# Altium integrated library Altera Cyclone.IntLib: 144 symbols (part 11 of 23)
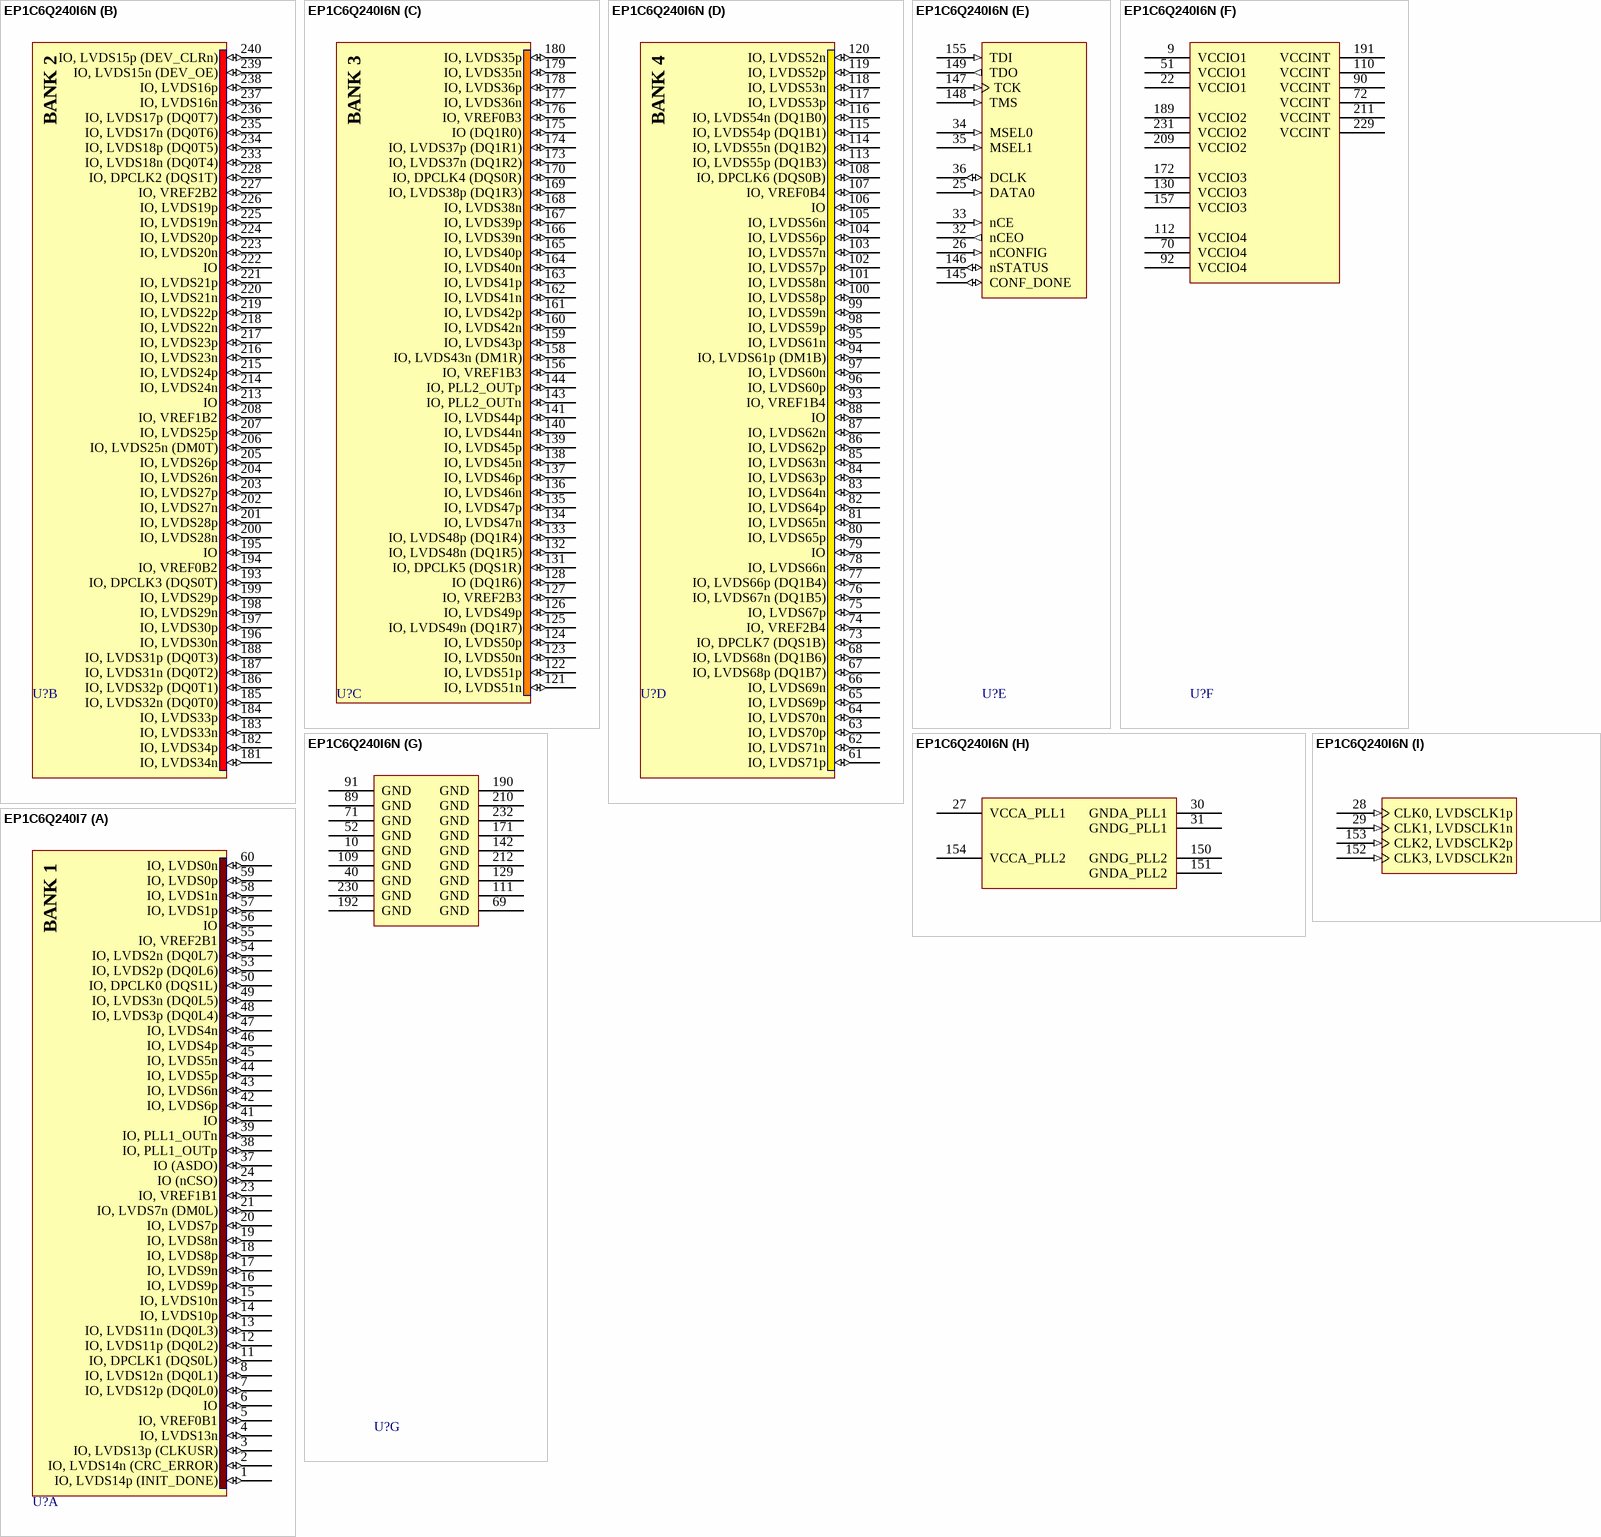
[diagram p163: symbols EP1C6Q240I6N to EP1C6Q240I7]

## EP1C6Q240I6N
designator U?
Cyclone Family, 1.5V FPGA, 185 I/O Pins, 2 x PLLs, Industrial Grade, Speed Grade 6, Pb-Free; Published: 18-Aug-2005; LatestRevisionDate: 13-Apr-2006; LatestRevisionNote: Pin 2 name fix, IPC-7351 Footprint Added.; DatasheetVersion: May-2008; PackageVersion: ver15.1, May-2008; PackageReference: PQFP240; Publisher: Altium Limited; PackageDescription: 240-Pin Plastic Quad Flat Pack (PQFP240) - Wire Bond; Code_JEDEC: MS-029-GA; ComponentLink1Description: Manufacturer Link; ComponentLink1URL: http://www.altera.com/products/devices/cyclone/cyc-index.jsp; ComponentLink2Description: Handbook; ComponentLink2URL: http://www.altera.com/literature/hb/cyc/cyc_c5v1.pdf; ComponentLink3Description: Packaging Specification; ComponentLink3URL: http://www.altera.com/literature/ds/dspkg.pdf
footprint PQFP240_N (Shrink QFP, 240-Leads, Body 32x32mm, Pitch 0.5mm, IPC Medium Density)
footprint PQFP240_L (Shrink QFP, 240-Leads, Body 32x32mm, Pitch 0.5mm, IPC High Density)
footprint PQFP240_M (Shrink QFP, 240-Leads, Body 32x32mm, Pitch 0.5mm, IPC Low Density)
3D model EP1C6-PQFP240 (240-Pin Plastic Quad Flat Pack (PQFP240) - Wire Bond)
signal-integrity model 1c (Cyclone)
part A pins: 1 IO, LVDS14p (INIT_DONE) (io), 2 IO, LVDS14n (CRC_ERROR) (io), 3 IO, LVDS13p (CLKUSR) (io), 4 IO, LVDS13n (io), 5 IO, VREF0B1 (io), 6 IO (io), 7 IO, LVDS12p (DQ0L0) (io), 8 IO, LVDS12n (DQ0L1) (io), 11 IO, DPCLK1 (DQS0L) (io), 12 IO, LVDS11p (DQ0L2) (io), 13 IO, LVDS11n (DQ0L3) (io), 14 IO, LVDS10p (io), 15 IO, LVDS10n (io), 16 IO, LVDS9p (io), 17 IO, LVDS9n (io), 18 IO, LVDS8p (io), 19 IO, LVDS8n (io), 20 IO, LVDS7p (io), 21 IO, LVDS7n (DM0L) (io), 23 IO, VREF1B1 (io), 24 IO (nCSO) (io), 37 IO (ASDO) (io), 38 IO, PLL1_OUTp (io), 39 IO, PLL1_OUTn (io), 41 IO (io), 42 IO, LVDS6p (io), 43 IO, LVDS6n (io), 44 IO, LVDS5p (io), 45 IO, LVDS5n (io), 46 IO, LVDS4p (io), 47 IO, LVDS4n (io), 48 IO, LVDS3p (DQ0L4) (io), 49 IO, LVDS3n (DQ0L5) (io), 50 IO, DPCLK0 (DQS1L) (io), 53 IO, LVDS2p (DQ0L6) (io), 54 IO, LVDS2n (DQ0L7) (io), 55 IO, VREF2B1 (io), 56 IO (io), 57 IO, LVDS1p (io), 58 IO, LVDS1n (io), 59 IO, LVDS0p (io), 60 IO, LVDS0n (io)
part B pins: 181 IO, LVDS34n (io), 182 IO, LVDS34p (io), 183 IO, LVDS33n (io), 184 IO, LVDS33p (io), 185 IO, LVDS32n (DQ0T0) (io), 186 IO, LVDS32p (DQ0T1) (io), 187 IO, LVDS31n (DQ0T2) (io), 188 IO, LVDS31p (DQ0T3) (io), 193 IO, DPCLK3 (DQS0T) (io), 194 IO, VREF0B2 (io), 195 IO (io), 196 IO, LVDS30n (io), 197 IO, LVDS30p (io), 198 IO, LVDS29n (io), 199 IO, LVDS29p (io), 200 IO, LVDS28n (io), 201 IO, LVDS28p (io), 202 IO, LVDS27n (io), 203 IO, LVDS27p (io), 204 IO, LVDS26n (io), 205 IO, LVDS26p (io), 206 IO, LVDS25n (DM0T) (io), 207 IO, LVDS25p (io), 208 IO, VREF1B2 (io), 213 IO (io), 214 IO, LVDS24n (io), 215 IO, LVDS24p (io), 216 IO, LVDS23n (io), 217 IO, LVDS23p (io), 218 IO, LVDS22n (io), 219 IO, LVDS22p (io), 220 IO, LVDS21n (io), 221 IO, LVDS21p (io), 222 IO (io), 223 IO, LVDS20n (io), 224 IO, LVDS20p (io), 225 IO, LVDS19n (io), 226 IO, LVDS19p (io), 227 IO, VREF2B2 (io), 228 IO, DPCLK2 (DQS1T) (io), 233 IO, LVDS18n (DQ0T4) (io), 234 IO, LVDS18p (DQ0T5) (io), 235 IO, LVDS17n (DQ0T6) (io), 236 IO, LVDS17p (DQ0T7) (io), 237 IO, LVDS16n (io), 238 IO, LVDS16p (io), 239 IO, LVDS15n (DEV_OE) (io), 240 IO, LVDS15p (DEV_CLRn) (io)
part C pins: 121 IO, LVDS51n (io), 122 IO, LVDS51p (io), 123 IO, LVDS50n (io), 124 IO, LVDS50p (io), 125 IO, LVDS49n (DQ1R7) (io), 126 IO, LVDS49p (io), 127 IO, VREF2B3 (io), 128 IO (DQ1R6) (io), 131 IO, DPCLK5 (DQS1R) (io), 132 IO, LVDS48n (DQ1R5) (io), 133 IO, LVDS48p (DQ1R4) (io), 134 IO, LVDS47n (io), 135 IO, LVDS47p (io), 136 IO, LVDS46n (io), 137 IO, LVDS46p (io), 138 IO, LVDS45n (io), 139 IO, LVDS45p (io), 140 IO, LVDS44n (io), 141 IO, LVDS44p (io), 143 IO, PLL2_OUTn (io), 144 IO, PLL2_OUTp (io), 156 IO, VREF1B3 (io), 158 IO, LVDS43n (DM1R) (io), 159 IO, LVDS43p (io), 160 IO, LVDS42n (io), 161 IO, LVDS42p (io), 162 IO, LVDS41n (io), 163 IO, LVDS41p (io), 164 IO, LVDS40n (io), 165 IO, LVDS40p (io), 166 IO, LVDS39n (io), 167 IO, LVDS39p (io), 168 IO, LVDS38n (io), 169 IO, LVDS38p (DQ1R3) (io), 170 IO, DPCLK4 (DQS0R) (io), 173 IO, LVDS37n (DQ1R2) (io), 174 IO, LVDS37p (DQ1R1) (io), 175 IO (DQ1R0) (io), 176 IO, VREF0B3 (io), 177 IO, LVDS36n (io), 178 IO, LVDS36p (io), 179 IO, LVDS35n (io), 180 IO, LVDS35p (io)
part D pins: 61 IO, LVDS71p (io), 62 IO, LVDS71n (io), 63 IO, LVDS70p (io), 64 IO, LVDS70n (io), 65 IO, LVDS69p (io), 66 IO, LVDS69n (io), 67 IO, LVDS68p (DQ1B7) (io), 68 IO, LVDS68n (DQ1B6) (io), 73 IO, DPCLK7 (DQS1B) (io), 74 IO, VREF2B4 (io), 75 IO, LVDS67p (io), 76 IO, LVDS67n (DQ1B5) (io), 77 IO, LVDS66p (DQ1B4) (io), 78 IO, LVDS66n (io), 79 IO (io), 80 IO, LVDS65p (io), 81 IO, LVDS65n (io), 82 IO, LVDS64p (io), 83 IO, LVDS64n (io), 84 IO, LVDS63p (io), 85 IO, LVDS63n (io), 86 IO, LVDS62p (io), 87 IO, LVDS62n (io), 88 IO (io), 93 IO, VREF1B4 (io), 94 IO, LVDS61p (DM1B) (io), 95 IO, LVDS61n (io), 96 IO, LVDS60p (io), 97 IO, LVDS60n (io), 98 IO, LVDS59p (io), 99 IO, LVDS59n (io), 100 IO, LVDS58p (io), 101 IO, LVDS58n (io), 102 IO, LVDS57p (io), 103 IO, LVDS57n (io), 104 IO, LVDS56p (io), 105 IO, LVDS56n (io), 106 IO (io), 107 IO, VREF0B4 (io), 108 IO, DPCLK6 (DQS0B) (io), 113 IO, LVDS55p (DQ1B3) (io), 114 IO, LVDS55n (DQ1B2) (io), 115 IO, LVDS54p (DQ1B1) (io), 116 IO, LVDS54n (DQ1B0) (io), 117 IO, LVDS53p (io), 118 IO, LVDS53n (io), 119 IO, LVDS52p (io), 120 IO, LVDS52n (io)
part E pins: 25 DATA0 (in), 26 nCONFIG (in), 32 nCEO (out), 33 nCE (in), 34 MSEL0 (in), 35 MSEL1 (in), 36 DCLK (io), 145 CONF_DONE (io), 146 nSTATUS (io), 147 TCK (in), 148 TMS (in), 149 TDO (out), 155 TDI (in)
part F pins: 9 VCCIO1 (power), 22 VCCIO1 (power), 51 VCCIO1 (power), 70 VCCIO4 (power), 72 VCCINT (power), 90 VCCINT (power), 92 VCCIO4 (power), 110 VCCINT (power), 112 VCCIO4 (power), 130 VCCIO3 (power), 157 VCCIO3 (power), 172 VCCIO3 (power), 189 VCCIO2 (power), 191 VCCINT (power), 209 VCCIO2 (power), 211 VCCINT (power), 229 VCCINT (power), 231 VCCIO2 (power)
part G pins: 10 GND (power), 40 GND (power), 52 GND (power), 69 GND (power), 71 GND (power), 89 GND (power), 91 GND (power), 109 GND (power), 111 GND (power), 129 GND (power), 142 GND (power), 171 GND (power), 190 GND (power), 192 GND (power), 210 GND (power), 212 GND (power), 230 GND (power), 232 GND (power)
part H pins: 27 VCCA_PLL1 (power), 30 GNDA_PLL1 (power), 31 GNDG_PLL1 (power), 150 GNDG_PLL2 (power), 151 GNDA_PLL2 (power), 154 VCCA_PLL2 (power)
part I pins: 28 CLK0, LVDSCLK1p (in), 29 CLK1, LVDSCLK1n (in), 152 CLK3, LVDSCLK2n (in), 153 CLK2, LVDSCLK2p (in)
part A text: BANK 1
part B text: BANK 2
part C text: BANK 3
part D text: BANK 4

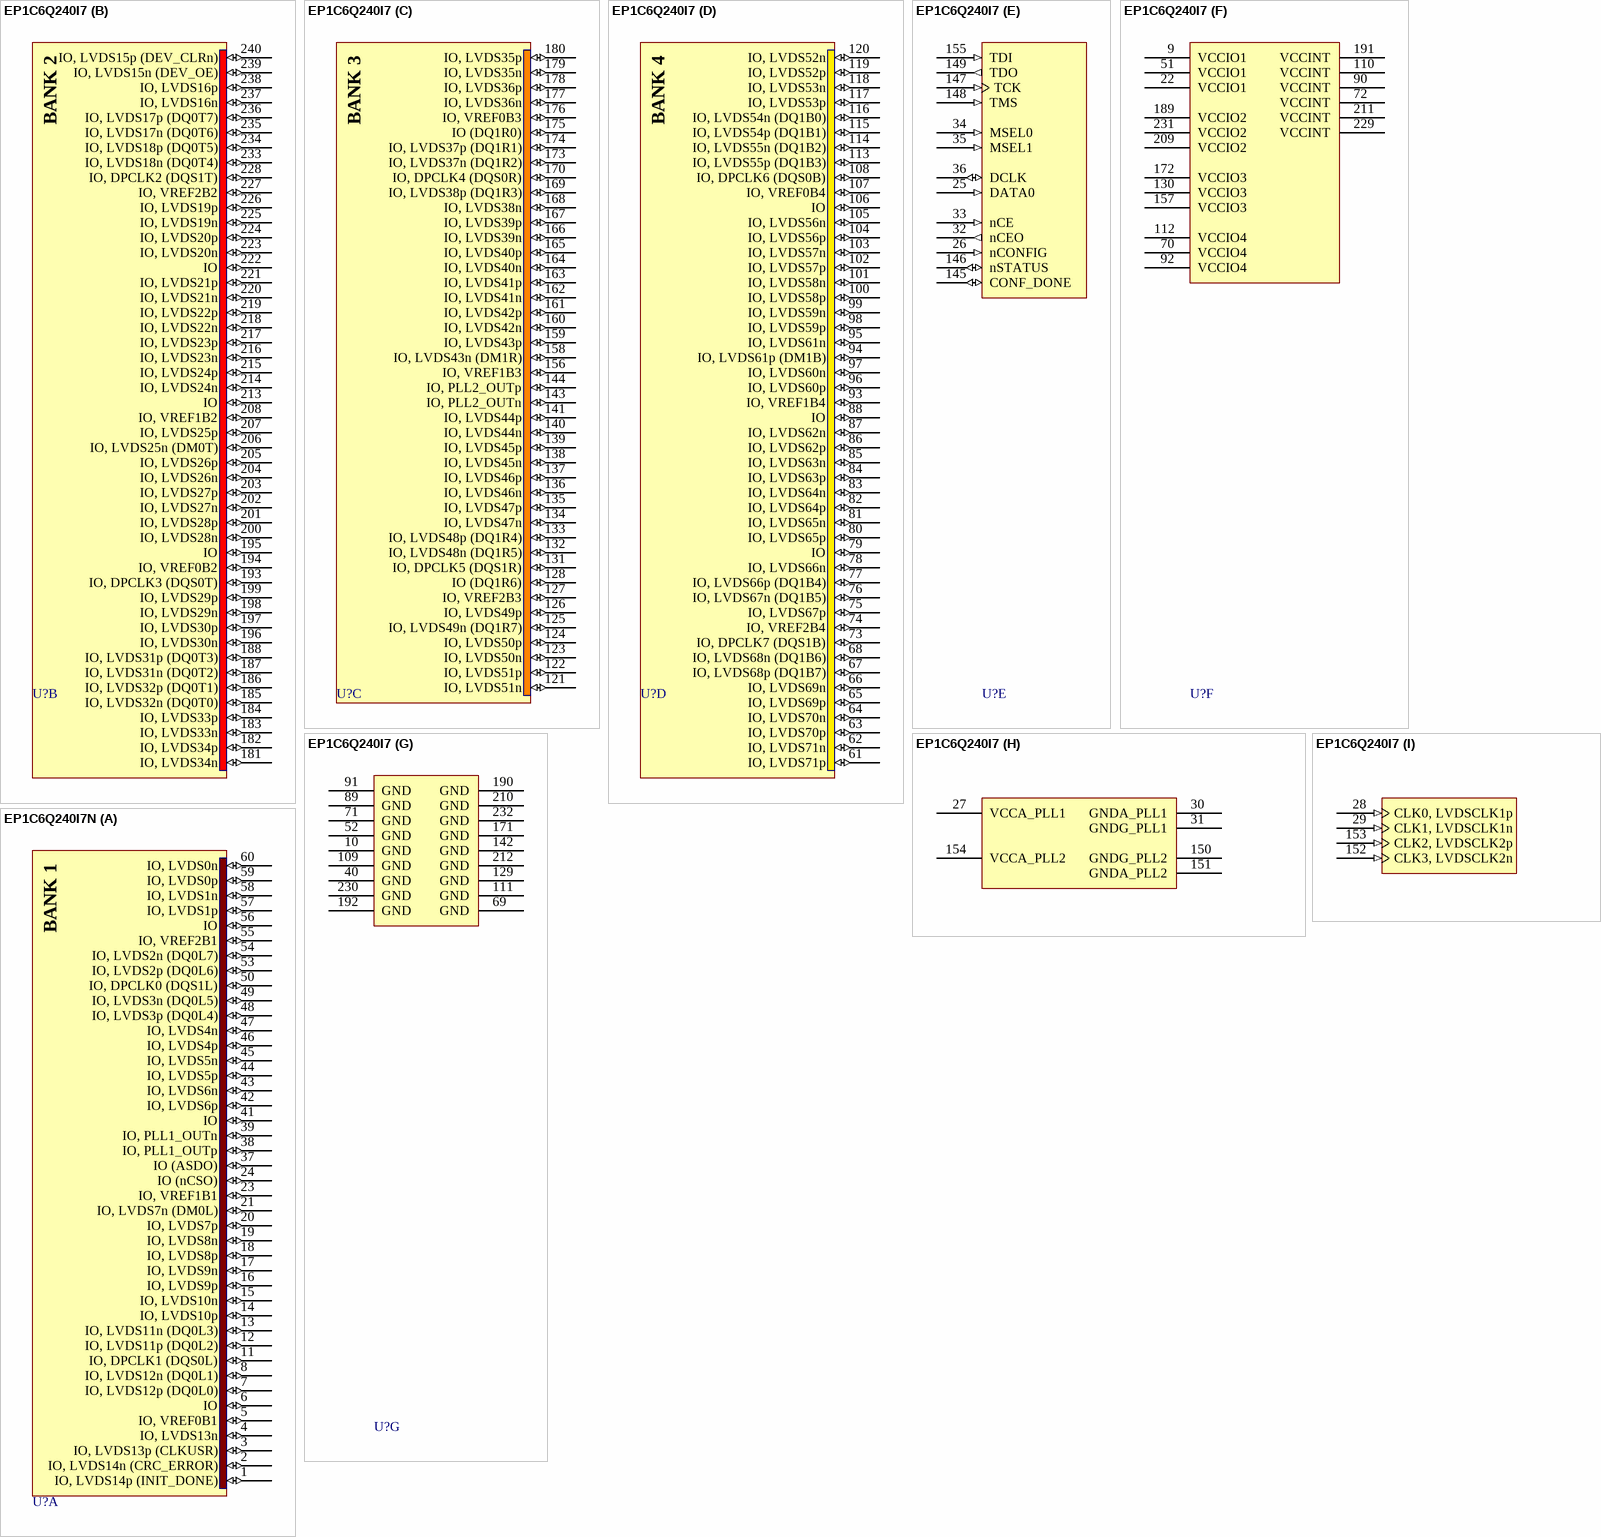
[diagram p68: symbols EP1C6Q240I7 to EP1C6Q240I7N]

## EP1C6Q240I7
designator U?
Cyclone Family, 1.5V FPGA, 185 I/O Pins, 2 x PLLs, Industrial Grade, Speed Grade 7; Published: 17-Dec-2003; LatestRevisionDate: 13-Apr-2006; LatestRevisionNote: Pin 2 name fix, IPC-7351 Footprint Added.; DatasheetVersion: May-2008; PackageVersion: ver15.1, May-2008; PackageReference: PQFP240; Publisher: Altium Limited; PackageDescription: 240-Pin Plastic Quad Flat Pack (PQFP240) - Wire Bond; Code_JEDEC: MS-029-GA; ComponentLink1Description: Manufacturer Link; ComponentLink1URL: http://www.altera.com/products/devices/cyclone/cyc-index.jsp; ComponentLink2Description: Handbook; ComponentLink2URL: http://www.altera.com/literature/hb/cyc/cyc_c5v1.pdf; ComponentLink3Description: Packaging Specification; ComponentLink3URL: http://www.altera.com/literature/ds/dspkg.pdf
footprint PQFP240_N (Shrink QFP, 240-Leads, Body 32x32mm, Pitch 0.5mm, IPC Medium Density)
footprint PQFP240_L (Shrink QFP, 240-Leads, Body 32x32mm, Pitch 0.5mm, IPC High Density)
footprint PQFP240_M (Shrink QFP, 240-Leads, Body 32x32mm, Pitch 0.5mm, IPC Low Density)
3D model EP1C6-PQFP240 (240-Pin Plastic Quad Flat Pack (PQFP240) - Wire Bond)
signal-integrity model 1c (Cyclone)
part A pins: 1 IO, LVDS14p (INIT_DONE) (io), 2 IO, LVDS14n (CRC_ERROR) (io), 3 IO, LVDS13p (CLKUSR) (io), 4 IO, LVDS13n (io), 5 IO, VREF0B1 (io), 6 IO (io), 7 IO, LVDS12p (DQ0L0) (io), 8 IO, LVDS12n (DQ0L1) (io), 11 IO, DPCLK1 (DQS0L) (io), 12 IO, LVDS11p (DQ0L2) (io), 13 IO, LVDS11n (DQ0L3) (io), 14 IO, LVDS10p (io), 15 IO, LVDS10n (io), 16 IO, LVDS9p (io), 17 IO, LVDS9n (io), 18 IO, LVDS8p (io), 19 IO, LVDS8n (io), 20 IO, LVDS7p (io), 21 IO, LVDS7n (DM0L) (io), 23 IO, VREF1B1 (io), 24 IO (nCSO) (io), 37 IO (ASDO) (io), 38 IO, PLL1_OUTp (io), 39 IO, PLL1_OUTn (io), 41 IO (io), 42 IO, LVDS6p (io), 43 IO, LVDS6n (io), 44 IO, LVDS5p (io), 45 IO, LVDS5n (io), 46 IO, LVDS4p (io), 47 IO, LVDS4n (io), 48 IO, LVDS3p (DQ0L4) (io), 49 IO, LVDS3n (DQ0L5) (io), 50 IO, DPCLK0 (DQS1L) (io), 53 IO, LVDS2p (DQ0L6) (io), 54 IO, LVDS2n (DQ0L7) (io), 55 IO, VREF2B1 (io), 56 IO (io), 57 IO, LVDS1p (io), 58 IO, LVDS1n (io), 59 IO, LVDS0p (io), 60 IO, LVDS0n (io)
part B pins: 181 IO, LVDS34n (io), 182 IO, LVDS34p (io), 183 IO, LVDS33n (io), 184 IO, LVDS33p (io), 185 IO, LVDS32n (DQ0T0) (io), 186 IO, LVDS32p (DQ0T1) (io), 187 IO, LVDS31n (DQ0T2) (io), 188 IO, LVDS31p (DQ0T3) (io), 193 IO, DPCLK3 (DQS0T) (io), 194 IO, VREF0B2 (io), 195 IO (io), 196 IO, LVDS30n (io), 197 IO, LVDS30p (io), 198 IO, LVDS29n (io), 199 IO, LVDS29p (io), 200 IO, LVDS28n (io), 201 IO, LVDS28p (io), 202 IO, LVDS27n (io), 203 IO, LVDS27p (io), 204 IO, LVDS26n (io), 205 IO, LVDS26p (io), 206 IO, LVDS25n (DM0T) (io), 207 IO, LVDS25p (io), 208 IO, VREF1B2 (io), 213 IO (io), 214 IO, LVDS24n (io), 215 IO, LVDS24p (io), 216 IO, LVDS23n (io), 217 IO, LVDS23p (io), 218 IO, LVDS22n (io), 219 IO, LVDS22p (io), 220 IO, LVDS21n (io), 221 IO, LVDS21p (io), 222 IO (io), 223 IO, LVDS20n (io), 224 IO, LVDS20p (io), 225 IO, LVDS19n (io), 226 IO, LVDS19p (io), 227 IO, VREF2B2 (io), 228 IO, DPCLK2 (DQS1T) (io), 233 IO, LVDS18n (DQ0T4) (io), 234 IO, LVDS18p (DQ0T5) (io), 235 IO, LVDS17n (DQ0T6) (io), 236 IO, LVDS17p (DQ0T7) (io), 237 IO, LVDS16n (io), 238 IO, LVDS16p (io), 239 IO, LVDS15n (DEV_OE) (io), 240 IO, LVDS15p (DEV_CLRn) (io)
part C pins: 121 IO, LVDS51n (io), 122 IO, LVDS51p (io), 123 IO, LVDS50n (io), 124 IO, LVDS50p (io), 125 IO, LVDS49n (DQ1R7) (io), 126 IO, LVDS49p (io), 127 IO, VREF2B3 (io), 128 IO (DQ1R6) (io), 131 IO, DPCLK5 (DQS1R) (io), 132 IO, LVDS48n (DQ1R5) (io), 133 IO, LVDS48p (DQ1R4) (io), 134 IO, LVDS47n (io), 135 IO, LVDS47p (io), 136 IO, LVDS46n (io), 137 IO, LVDS46p (io), 138 IO, LVDS45n (io), 139 IO, LVDS45p (io), 140 IO, LVDS44n (io), 141 IO, LVDS44p (io), 143 IO, PLL2_OUTn (io), 144 IO, PLL2_OUTp (io), 156 IO, VREF1B3 (io), 158 IO, LVDS43n (DM1R) (io), 159 IO, LVDS43p (io), 160 IO, LVDS42n (io), 161 IO, LVDS42p (io), 162 IO, LVDS41n (io), 163 IO, LVDS41p (io), 164 IO, LVDS40n (io), 165 IO, LVDS40p (io), 166 IO, LVDS39n (io), 167 IO, LVDS39p (io), 168 IO, LVDS38n (io), 169 IO, LVDS38p (DQ1R3) (io), 170 IO, DPCLK4 (DQS0R) (io), 173 IO, LVDS37n (DQ1R2) (io), 174 IO, LVDS37p (DQ1R1) (io), 175 IO (DQ1R0) (io), 176 IO, VREF0B3 (io), 177 IO, LVDS36n (io), 178 IO, LVDS36p (io), 179 IO, LVDS35n (io), 180 IO, LVDS35p (io)
part D pins: 61 IO, LVDS71p (io), 62 IO, LVDS71n (io), 63 IO, LVDS70p (io), 64 IO, LVDS70n (io), 65 IO, LVDS69p (io), 66 IO, LVDS69n (io), 67 IO, LVDS68p (DQ1B7) (io), 68 IO, LVDS68n (DQ1B6) (io), 73 IO, DPCLK7 (DQS1B) (io), 74 IO, VREF2B4 (io), 75 IO, LVDS67p (io), 76 IO, LVDS67n (DQ1B5) (io), 77 IO, LVDS66p (DQ1B4) (io), 78 IO, LVDS66n (io), 79 IO (io), 80 IO, LVDS65p (io), 81 IO, LVDS65n (io), 82 IO, LVDS64p (io), 83 IO, LVDS64n (io), 84 IO, LVDS63p (io), 85 IO, LVDS63n (io), 86 IO, LVDS62p (io), 87 IO, LVDS62n (io), 88 IO (io), 93 IO, VREF1B4 (io), 94 IO, LVDS61p (DM1B) (io), 95 IO, LVDS61n (io), 96 IO, LVDS60p (io), 97 IO, LVDS60n (io), 98 IO, LVDS59p (io), 99 IO, LVDS59n (io), 100 IO, LVDS58p (io), 101 IO, LVDS58n (io), 102 IO, LVDS57p (io), 103 IO, LVDS57n (io), 104 IO, LVDS56p (io), 105 IO, LVDS56n (io), 106 IO (io), 107 IO, VREF0B4 (io), 108 IO, DPCLK6 (DQS0B) (io), 113 IO, LVDS55p (DQ1B3) (io), 114 IO, LVDS55n (DQ1B2) (io), 115 IO, LVDS54p (DQ1B1) (io), 116 IO, LVDS54n (DQ1B0) (io), 117 IO, LVDS53p (io), 118 IO, LVDS53n (io), 119 IO, LVDS52p (io), 120 IO, LVDS52n (io)
part E pins: 25 DATA0 (in), 26 nCONFIG (in), 32 nCEO (out), 33 nCE (in), 34 MSEL0 (in), 35 MSEL1 (in), 36 DCLK (io), 145 CONF_DONE (io), 146 nSTATUS (io), 147 TCK (in), 148 TMS (in), 149 TDO (out), 155 TDI (in)
part F pins: 9 VCCIO1 (power), 22 VCCIO1 (power), 51 VCCIO1 (power), 70 VCCIO4 (power), 72 VCCINT (power), 90 VCCINT (power), 92 VCCIO4 (power), 110 VCCINT (power), 112 VCCIO4 (power), 130 VCCIO3 (power), 157 VCCIO3 (power), 172 VCCIO3 (power), 189 VCCIO2 (power), 191 VCCINT (power), 209 VCCIO2 (power), 211 VCCINT (power), 229 VCCINT (power), 231 VCCIO2 (power)
part G pins: 10 GND (power), 40 GND (power), 52 GND (power), 69 GND (power), 71 GND (power), 89 GND (power), 91 GND (power), 109 GND (power), 111 GND (power), 129 GND (power), 142 GND (power), 171 GND (power), 190 GND (power), 192 GND (power), 210 GND (power), 212 GND (power), 230 GND (power), 232 GND (power)
part H pins: 27 VCCA_PLL1 (power), 30 GNDA_PLL1 (power), 31 GNDG_PLL1 (power), 150 GNDG_PLL2 (power), 151 GNDA_PLL2 (power), 154 VCCA_PLL2 (power)
part I pins: 28 CLK0, LVDSCLK1p (in), 29 CLK1, LVDSCLK1n (in), 152 CLK3, LVDSCLK2n (in), 153 CLK2, LVDSCLK2p (in)
part A text: BANK 1
part B text: BANK 2
part C text: BANK 3
part D text: BANK 4

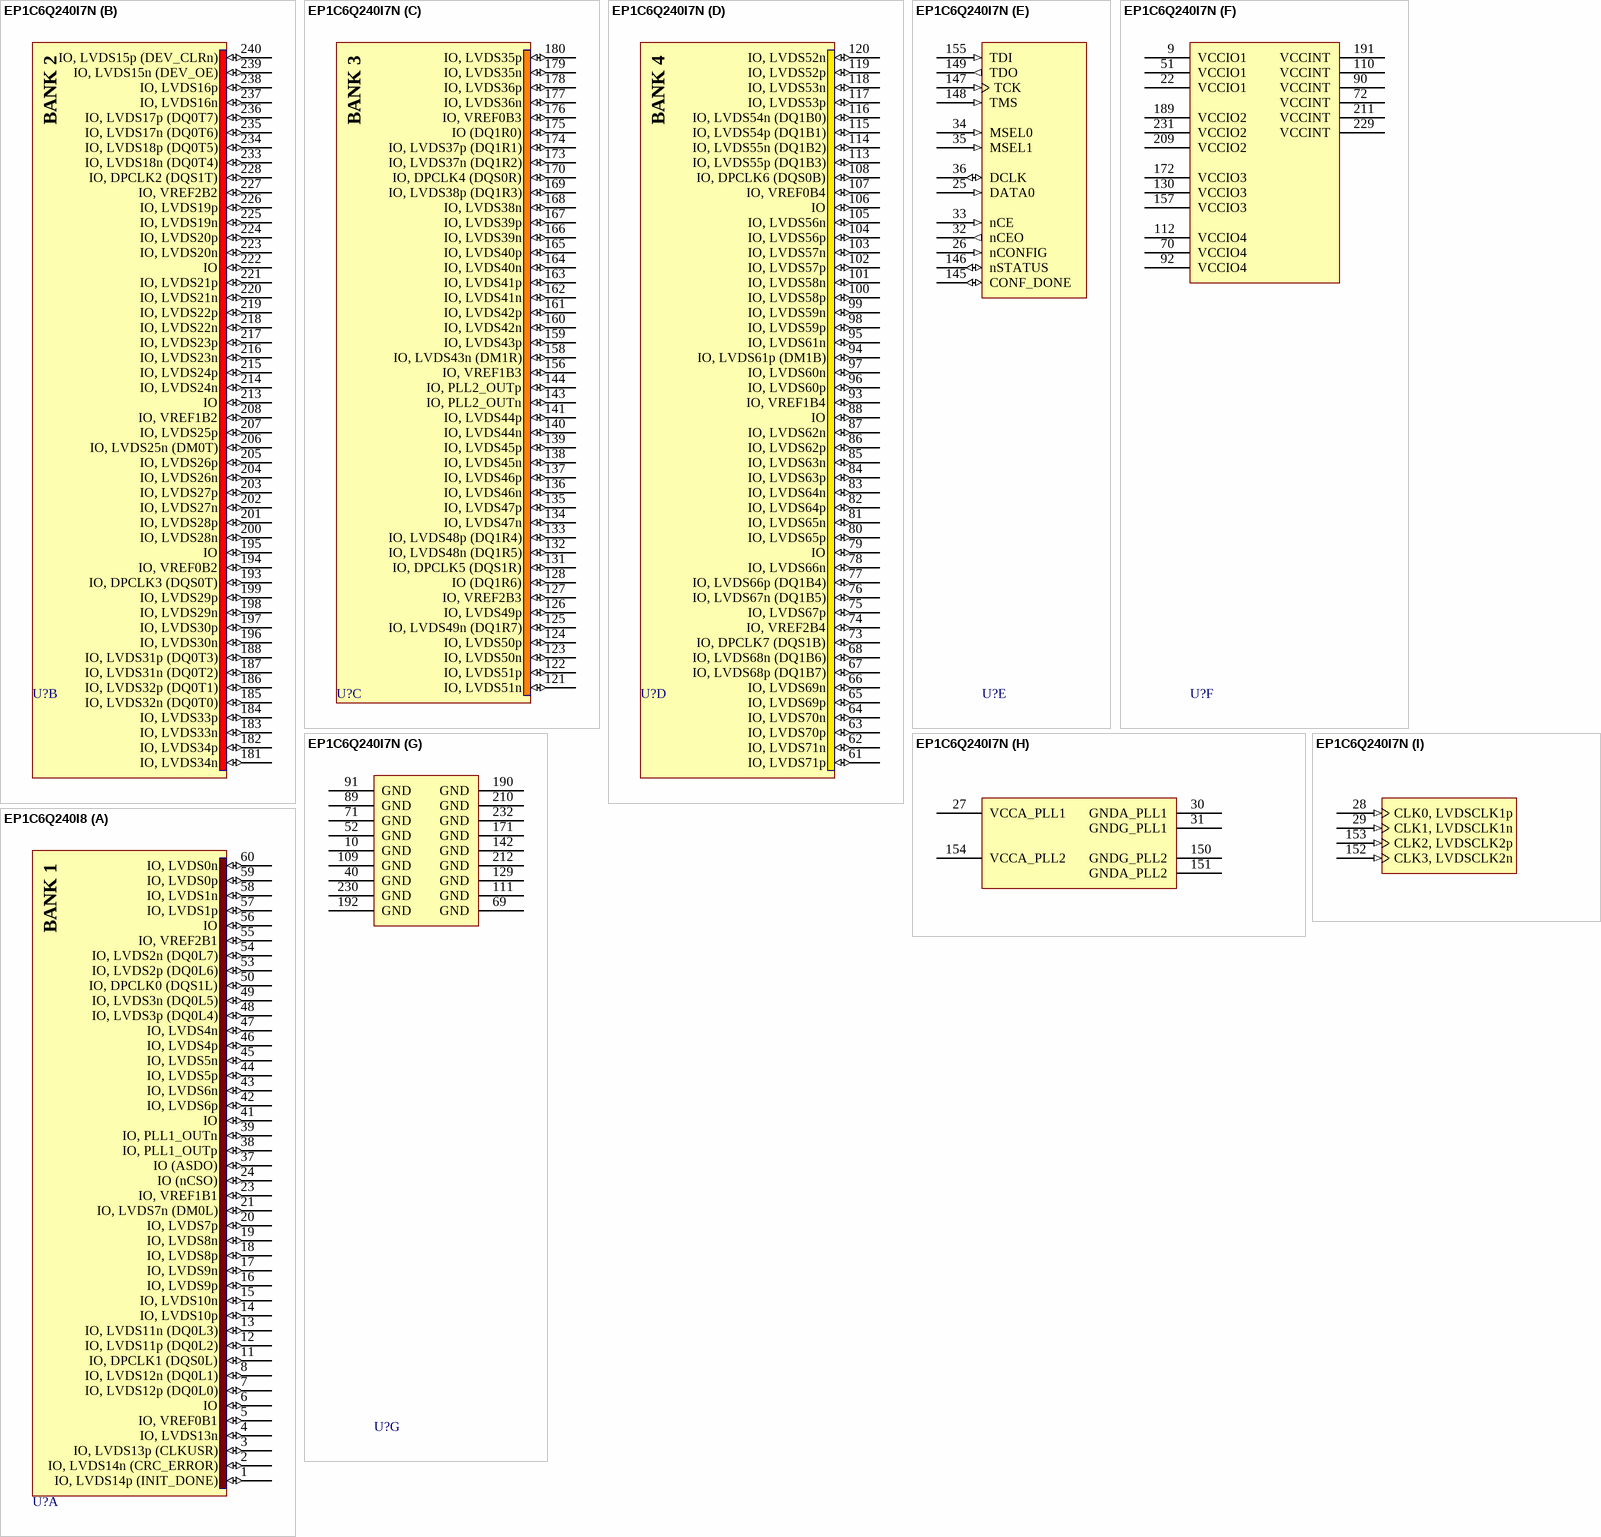
[diagram p69: symbols EP1C6Q240I7N to EP1C6Q240I8]

## EP1C6Q240I7N
designator U?
Cyclone Family, 1.5V FPGA, 185 I/O Pins, 2 x PLLs, Industrial Grade, Speed Grade 7, Pb-Free; Published: 4-Mar-2005; LatestRevisionDate: 13-Apr-2006; LatestRevisionNote: Pin 2 name fix, IPC-7351 Footprint Added.; DatasheetVersion: May-2008; PackageVersion: ver15.1, May-2008; PackageReference: PQFP240; Publisher: Altium Limited; PackageDescription: 240-Pin Plastic Quad Flat Pack (PQFP240) - Wire Bond; Code_JEDEC: MS-029-GA; ComponentLink1Description: Manufacturer Link; ComponentLink1URL: http://www.altera.com/products/devices/cyclone/cyc-index.jsp; ComponentLink2Description: Handbook; ComponentLink2URL: http://www.altera.com/literature/hb/cyc/cyc_c5v1.pdf; ComponentLink3Description: Packaging Specification; ComponentLink3URL: http://www.altera.com/literature/ds/dspkg.pdf
footprint PQFP240_N (Shrink QFP, 240-Leads, Body 32x32mm, Pitch 0.5mm, IPC Medium Density)
footprint PQFP240_L (Shrink QFP, 240-Leads, Body 32x32mm, Pitch 0.5mm, IPC High Density)
footprint PQFP240_M (Shrink QFP, 240-Leads, Body 32x32mm, Pitch 0.5mm, IPC Low Density)
3D model EP1C6-PQFP240 (240-Pin Plastic Quad Flat Pack (PQFP240) - Wire Bond)
signal-integrity model 1c (Cyclone)
part A pins: 1 IO, LVDS14p (INIT_DONE) (io), 2 IO, LVDS14n (CRC_ERROR) (io), 3 IO, LVDS13p (CLKUSR) (io), 4 IO, LVDS13n (io), 5 IO, VREF0B1 (io), 6 IO (io), 7 IO, LVDS12p (DQ0L0) (io), 8 IO, LVDS12n (DQ0L1) (io), 11 IO, DPCLK1 (DQS0L) (io), 12 IO, LVDS11p (DQ0L2) (io), 13 IO, LVDS11n (DQ0L3) (io), 14 IO, LVDS10p (io), 15 IO, LVDS10n (io), 16 IO, LVDS9p (io), 17 IO, LVDS9n (io), 18 IO, LVDS8p (io), 19 IO, LVDS8n (io), 20 IO, LVDS7p (io), 21 IO, LVDS7n (DM0L) (io), 23 IO, VREF1B1 (io), 24 IO (nCSO) (io), 37 IO (ASDO) (io), 38 IO, PLL1_OUTp (io), 39 IO, PLL1_OUTn (io), 41 IO (io), 42 IO, LVDS6p (io), 43 IO, LVDS6n (io), 44 IO, LVDS5p (io), 45 IO, LVDS5n (io), 46 IO, LVDS4p (io), 47 IO, LVDS4n (io), 48 IO, LVDS3p (DQ0L4) (io), 49 IO, LVDS3n (DQ0L5) (io), 50 IO, DPCLK0 (DQS1L) (io), 53 IO, LVDS2p (DQ0L6) (io), 54 IO, LVDS2n (DQ0L7) (io), 55 IO, VREF2B1 (io), 56 IO (io), 57 IO, LVDS1p (io), 58 IO, LVDS1n (io), 59 IO, LVDS0p (io), 60 IO, LVDS0n (io)
part B pins: 181 IO, LVDS34n (io), 182 IO, LVDS34p (io), 183 IO, LVDS33n (io), 184 IO, LVDS33p (io), 185 IO, LVDS32n (DQ0T0) (io), 186 IO, LVDS32p (DQ0T1) (io), 187 IO, LVDS31n (DQ0T2) (io), 188 IO, LVDS31p (DQ0T3) (io), 193 IO, DPCLK3 (DQS0T) (io), 194 IO, VREF0B2 (io), 195 IO (io), 196 IO, LVDS30n (io), 197 IO, LVDS30p (io), 198 IO, LVDS29n (io), 199 IO, LVDS29p (io), 200 IO, LVDS28n (io), 201 IO, LVDS28p (io), 202 IO, LVDS27n (io), 203 IO, LVDS27p (io), 204 IO, LVDS26n (io), 205 IO, LVDS26p (io), 206 IO, LVDS25n (DM0T) (io), 207 IO, LVDS25p (io), 208 IO, VREF1B2 (io), 213 IO (io), 214 IO, LVDS24n (io), 215 IO, LVDS24p (io), 216 IO, LVDS23n (io), 217 IO, LVDS23p (io), 218 IO, LVDS22n (io), 219 IO, LVDS22p (io), 220 IO, LVDS21n (io), 221 IO, LVDS21p (io), 222 IO (io), 223 IO, LVDS20n (io), 224 IO, LVDS20p (io), 225 IO, LVDS19n (io), 226 IO, LVDS19p (io), 227 IO, VREF2B2 (io), 228 IO, DPCLK2 (DQS1T) (io), 233 IO, LVDS18n (DQ0T4) (io), 234 IO, LVDS18p (DQ0T5) (io), 235 IO, LVDS17n (DQ0T6) (io), 236 IO, LVDS17p (DQ0T7) (io), 237 IO, LVDS16n (io), 238 IO, LVDS16p (io), 239 IO, LVDS15n (DEV_OE) (io), 240 IO, LVDS15p (DEV_CLRn) (io)
part C pins: 121 IO, LVDS51n (io), 122 IO, LVDS51p (io), 123 IO, LVDS50n (io), 124 IO, LVDS50p (io), 125 IO, LVDS49n (DQ1R7) (io), 126 IO, LVDS49p (io), 127 IO, VREF2B3 (io), 128 IO (DQ1R6) (io), 131 IO, DPCLK5 (DQS1R) (io), 132 IO, LVDS48n (DQ1R5) (io), 133 IO, LVDS48p (DQ1R4) (io), 134 IO, LVDS47n (io), 135 IO, LVDS47p (io), 136 IO, LVDS46n (io), 137 IO, LVDS46p (io), 138 IO, LVDS45n (io), 139 IO, LVDS45p (io), 140 IO, LVDS44n (io), 141 IO, LVDS44p (io), 143 IO, PLL2_OUTn (io), 144 IO, PLL2_OUTp (io), 156 IO, VREF1B3 (io), 158 IO, LVDS43n (DM1R) (io), 159 IO, LVDS43p (io), 160 IO, LVDS42n (io), 161 IO, LVDS42p (io), 162 IO, LVDS41n (io), 163 IO, LVDS41p (io), 164 IO, LVDS40n (io), 165 IO, LVDS40p (io), 166 IO, LVDS39n (io), 167 IO, LVDS39p (io), 168 IO, LVDS38n (io), 169 IO, LVDS38p (DQ1R3) (io), 170 IO, DPCLK4 (DQS0R) (io), 173 IO, LVDS37n (DQ1R2) (io), 174 IO, LVDS37p (DQ1R1) (io), 175 IO (DQ1R0) (io), 176 IO, VREF0B3 (io), 177 IO, LVDS36n (io), 178 IO, LVDS36p (io), 179 IO, LVDS35n (io), 180 IO, LVDS35p (io)
part D pins: 61 IO, LVDS71p (io), 62 IO, LVDS71n (io), 63 IO, LVDS70p (io), 64 IO, LVDS70n (io), 65 IO, LVDS69p (io), 66 IO, LVDS69n (io), 67 IO, LVDS68p (DQ1B7) (io), 68 IO, LVDS68n (DQ1B6) (io), 73 IO, DPCLK7 (DQS1B) (io), 74 IO, VREF2B4 (io), 75 IO, LVDS67p (io), 76 IO, LVDS67n (DQ1B5) (io), 77 IO, LVDS66p (DQ1B4) (io), 78 IO, LVDS66n (io), 79 IO (io), 80 IO, LVDS65p (io), 81 IO, LVDS65n (io), 82 IO, LVDS64p (io), 83 IO, LVDS64n (io), 84 IO, LVDS63p (io), 85 IO, LVDS63n (io), 86 IO, LVDS62p (io), 87 IO, LVDS62n (io), 88 IO (io), 93 IO, VREF1B4 (io), 94 IO, LVDS61p (DM1B) (io), 95 IO, LVDS61n (io), 96 IO, LVDS60p (io), 97 IO, LVDS60n (io), 98 IO, LVDS59p (io), 99 IO, LVDS59n (io), 100 IO, LVDS58p (io), 101 IO, LVDS58n (io), 102 IO, LVDS57p (io), 103 IO, LVDS57n (io), 104 IO, LVDS56p (io), 105 IO, LVDS56n (io), 106 IO (io), 107 IO, VREF0B4 (io), 108 IO, DPCLK6 (DQS0B) (io), 113 IO, LVDS55p (DQ1B3) (io), 114 IO, LVDS55n (DQ1B2) (io), 115 IO, LVDS54p (DQ1B1) (io), 116 IO, LVDS54n (DQ1B0) (io), 117 IO, LVDS53p (io), 118 IO, LVDS53n (io), 119 IO, LVDS52p (io), 120 IO, LVDS52n (io)
part E pins: 25 DATA0 (in), 26 nCONFIG (in), 32 nCEO (out), 33 nCE (in), 34 MSEL0 (in), 35 MSEL1 (in), 36 DCLK (io), 145 CONF_DONE (io), 146 nSTATUS (io), 147 TCK (in), 148 TMS (in), 149 TDO (out), 155 TDI (in)
part F pins: 9 VCCIO1 (power), 22 VCCIO1 (power), 51 VCCIO1 (power), 70 VCCIO4 (power), 72 VCCINT (power), 90 VCCINT (power), 92 VCCIO4 (power), 110 VCCINT (power), 112 VCCIO4 (power), 130 VCCIO3 (power), 157 VCCIO3 (power), 172 VCCIO3 (power), 189 VCCIO2 (power), 191 VCCINT (power), 209 VCCIO2 (power), 211 VCCINT (power), 229 VCCINT (power), 231 VCCIO2 (power)
part G pins: 10 GND (power), 40 GND (power), 52 GND (power), 69 GND (power), 71 GND (power), 89 GND (power), 91 GND (power), 109 GND (power), 111 GND (power), 129 GND (power), 142 GND (power), 171 GND (power), 190 GND (power), 192 GND (power), 210 GND (power), 212 GND (power), 230 GND (power), 232 GND (power)
part H pins: 27 VCCA_PLL1 (power), 30 GNDA_PLL1 (power), 31 GNDG_PLL1 (power), 150 GNDG_PLL2 (power), 151 GNDA_PLL2 (power), 154 VCCA_PLL2 (power)
part I pins: 28 CLK0, LVDSCLK1p (in), 29 CLK1, LVDSCLK1n (in), 152 CLK3, LVDSCLK2n (in), 153 CLK2, LVDSCLK2p (in)
part A text: BANK 1
part B text: BANK 2
part C text: BANK 3
part D text: BANK 4

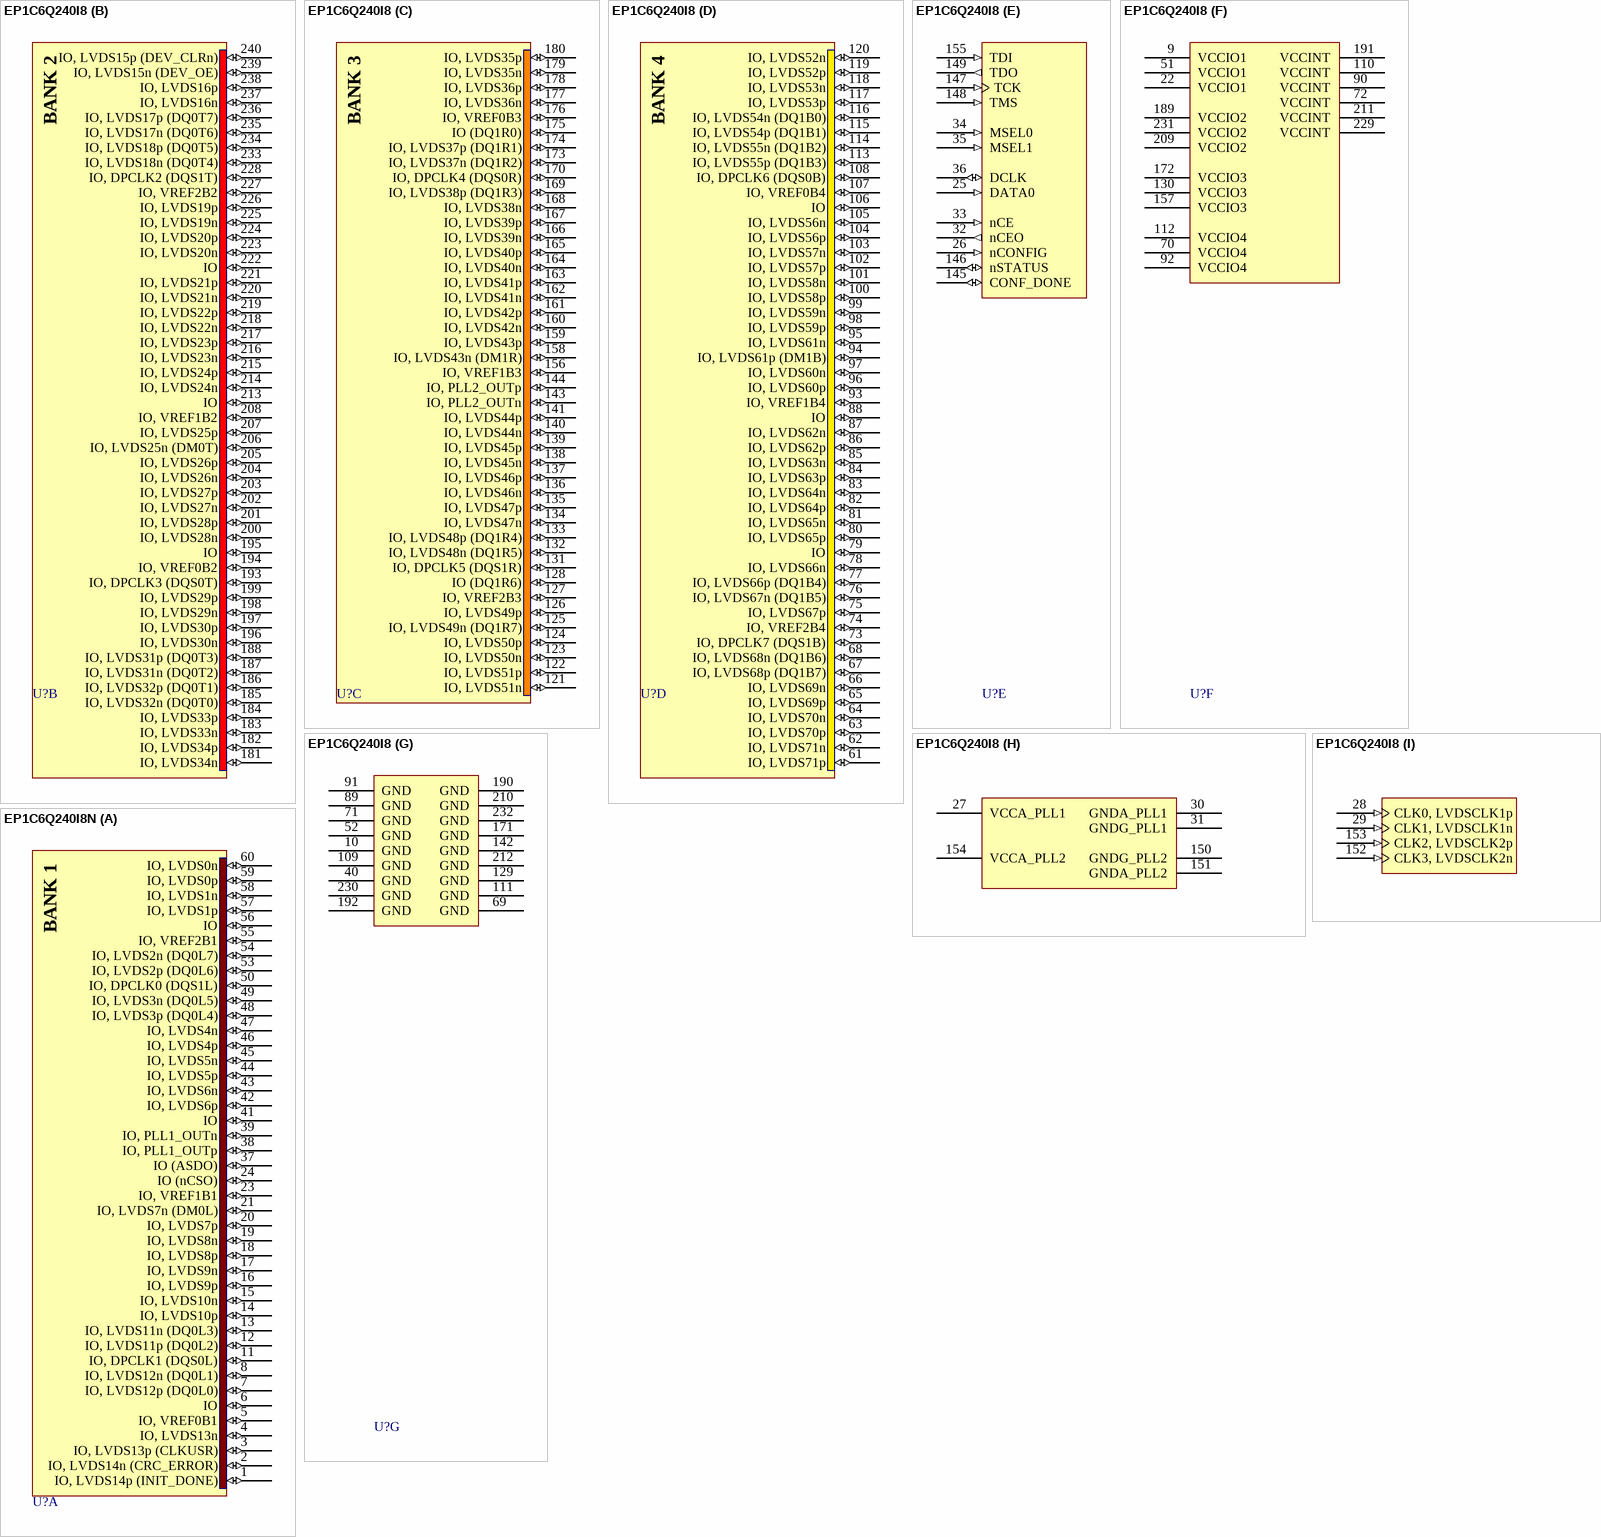
[diagram p70: symbols EP1C6Q240I8 to EP1C6Q240I8N]

## EP1C6Q240I8
designator U?
Cyclone Family, 1.5V FPGA, 185 I/O Pins, 2 x PLLs, Industrial Grade, Speed Grade 8; Published: 17-Dec-2003; LatestRevisionDate: 13-Apr-2006; LatestRevisionNote: Pin 2 name fix, IPC-7351 Footprint Added.; DatasheetVersion: May-2008; PackageVersion: ver15.1, May-2008; PackageReference: PQFP240; Publisher: Altium Limited; PackageDescription: 240-Pin Plastic Quad Flat Pack (PQFP240) - Wire Bond; Code_JEDEC: MS-029-GA; ComponentLink1Description: Manufacturer Link; ComponentLink1URL: http://www.altera.com/products/devices/cyclone/cyc-index.jsp; ComponentLink2Description: Handbook; ComponentLink2URL: http://www.altera.com/literature/hb/cyc/cyc_c5v1.pdf; ComponentLink3Description: Packaging Specification; ComponentLink3URL: http://www.altera.com/literature/ds/dspkg.pdf
footprint PQFP240_N (Shrink QFP, 240-Leads, Body 32x32mm, Pitch 0.5mm, IPC Medium Density)
footprint PQFP240_L (Shrink QFP, 240-Leads, Body 32x32mm, Pitch 0.5mm, IPC High Density)
footprint PQFP240_M (Shrink QFP, 240-Leads, Body 32x32mm, Pitch 0.5mm, IPC Low Density)
3D model EP1C6-PQFP240 (240-Pin Plastic Quad Flat Pack (PQFP240) - Wire Bond)
signal-integrity model 1c (Cyclone)
part A pins: 1 IO, LVDS14p (INIT_DONE) (io), 2 IO, LVDS14n (CRC_ERROR) (io), 3 IO, LVDS13p (CLKUSR) (io), 4 IO, LVDS13n (io), 5 IO, VREF0B1 (io), 6 IO (io), 7 IO, LVDS12p (DQ0L0) (io), 8 IO, LVDS12n (DQ0L1) (io), 11 IO, DPCLK1 (DQS0L) (io), 12 IO, LVDS11p (DQ0L2) (io), 13 IO, LVDS11n (DQ0L3) (io), 14 IO, LVDS10p (io), 15 IO, LVDS10n (io), 16 IO, LVDS9p (io), 17 IO, LVDS9n (io), 18 IO, LVDS8p (io), 19 IO, LVDS8n (io), 20 IO, LVDS7p (io), 21 IO, LVDS7n (DM0L) (io), 23 IO, VREF1B1 (io), 24 IO (nCSO) (io), 37 IO (ASDO) (io), 38 IO, PLL1_OUTp (io), 39 IO, PLL1_OUTn (io), 41 IO (io), 42 IO, LVDS6p (io), 43 IO, LVDS6n (io), 44 IO, LVDS5p (io), 45 IO, LVDS5n (io), 46 IO, LVDS4p (io), 47 IO, LVDS4n (io), 48 IO, LVDS3p (DQ0L4) (io), 49 IO, LVDS3n (DQ0L5) (io), 50 IO, DPCLK0 (DQS1L) (io), 53 IO, LVDS2p (DQ0L6) (io), 54 IO, LVDS2n (DQ0L7) (io), 55 IO, VREF2B1 (io), 56 IO (io), 57 IO, LVDS1p (io), 58 IO, LVDS1n (io), 59 IO, LVDS0p (io), 60 IO, LVDS0n (io)
part B pins: 181 IO, LVDS34n (io), 182 IO, LVDS34p (io), 183 IO, LVDS33n (io), 184 IO, LVDS33p (io), 185 IO, LVDS32n (DQ0T0) (io), 186 IO, LVDS32p (DQ0T1) (io), 187 IO, LVDS31n (DQ0T2) (io), 188 IO, LVDS31p (DQ0T3) (io), 193 IO, DPCLK3 (DQS0T) (io), 194 IO, VREF0B2 (io), 195 IO (io), 196 IO, LVDS30n (io), 197 IO, LVDS30p (io), 198 IO, LVDS29n (io), 199 IO, LVDS29p (io), 200 IO, LVDS28n (io), 201 IO, LVDS28p (io), 202 IO, LVDS27n (io), 203 IO, LVDS27p (io), 204 IO, LVDS26n (io), 205 IO, LVDS26p (io), 206 IO, LVDS25n (DM0T) (io), 207 IO, LVDS25p (io), 208 IO, VREF1B2 (io), 213 IO (io), 214 IO, LVDS24n (io), 215 IO, LVDS24p (io), 216 IO, LVDS23n (io), 217 IO, LVDS23p (io), 218 IO, LVDS22n (io), 219 IO, LVDS22p (io), 220 IO, LVDS21n (io), 221 IO, LVDS21p (io), 222 IO (io), 223 IO, LVDS20n (io), 224 IO, LVDS20p (io), 225 IO, LVDS19n (io), 226 IO, LVDS19p (io), 227 IO, VREF2B2 (io), 228 IO, DPCLK2 (DQS1T) (io), 233 IO, LVDS18n (DQ0T4) (io), 234 IO, LVDS18p (DQ0T5) (io), 235 IO, LVDS17n (DQ0T6) (io), 236 IO, LVDS17p (DQ0T7) (io), 237 IO, LVDS16n (io), 238 IO, LVDS16p (io), 239 IO, LVDS15n (DEV_OE) (io), 240 IO, LVDS15p (DEV_CLRn) (io)
part C pins: 121 IO, LVDS51n (io), 122 IO, LVDS51p (io), 123 IO, LVDS50n (io), 124 IO, LVDS50p (io), 125 IO, LVDS49n (DQ1R7) (io), 126 IO, LVDS49p (io), 127 IO, VREF2B3 (io), 128 IO (DQ1R6) (io), 131 IO, DPCLK5 (DQS1R) (io), 132 IO, LVDS48n (DQ1R5) (io), 133 IO, LVDS48p (DQ1R4) (io), 134 IO, LVDS47n (io), 135 IO, LVDS47p (io), 136 IO, LVDS46n (io), 137 IO, LVDS46p (io), 138 IO, LVDS45n (io), 139 IO, LVDS45p (io), 140 IO, LVDS44n (io), 141 IO, LVDS44p (io), 143 IO, PLL2_OUTn (io), 144 IO, PLL2_OUTp (io), 156 IO, VREF1B3 (io), 158 IO, LVDS43n (DM1R) (io), 159 IO, LVDS43p (io), 160 IO, LVDS42n (io), 161 IO, LVDS42p (io), 162 IO, LVDS41n (io), 163 IO, LVDS41p (io), 164 IO, LVDS40n (io), 165 IO, LVDS40p (io), 166 IO, LVDS39n (io), 167 IO, LVDS39p (io), 168 IO, LVDS38n (io), 169 IO, LVDS38p (DQ1R3) (io), 170 IO, DPCLK4 (DQS0R) (io), 173 IO, LVDS37n (DQ1R2) (io), 174 IO, LVDS37p (DQ1R1) (io), 175 IO (DQ1R0) (io), 176 IO, VREF0B3 (io), 177 IO, LVDS36n (io), 178 IO, LVDS36p (io), 179 IO, LVDS35n (io), 180 IO, LVDS35p (io)
part D pins: 61 IO, LVDS71p (io), 62 IO, LVDS71n (io), 63 IO, LVDS70p (io), 64 IO, LVDS70n (io), 65 IO, LVDS69p (io), 66 IO, LVDS69n (io), 67 IO, LVDS68p (DQ1B7) (io), 68 IO, LVDS68n (DQ1B6) (io), 73 IO, DPCLK7 (DQS1B) (io), 74 IO, VREF2B4 (io), 75 IO, LVDS67p (io), 76 IO, LVDS67n (DQ1B5) (io), 77 IO, LVDS66p (DQ1B4) (io), 78 IO, LVDS66n (io), 79 IO (io), 80 IO, LVDS65p (io), 81 IO, LVDS65n (io), 82 IO, LVDS64p (io), 83 IO, LVDS64n (io), 84 IO, LVDS63p (io), 85 IO, LVDS63n (io), 86 IO, LVDS62p (io), 87 IO, LVDS62n (io), 88 IO (io), 93 IO, VREF1B4 (io), 94 IO, LVDS61p (DM1B) (io), 95 IO, LVDS61n (io), 96 IO, LVDS60p (io), 97 IO, LVDS60n (io), 98 IO, LVDS59p (io), 99 IO, LVDS59n (io), 100 IO, LVDS58p (io), 101 IO, LVDS58n (io), 102 IO, LVDS57p (io), 103 IO, LVDS57n (io), 104 IO, LVDS56p (io), 105 IO, LVDS56n (io), 106 IO (io), 107 IO, VREF0B4 (io), 108 IO, DPCLK6 (DQS0B) (io), 113 IO, LVDS55p (DQ1B3) (io), 114 IO, LVDS55n (DQ1B2) (io), 115 IO, LVDS54p (DQ1B1) (io), 116 IO, LVDS54n (DQ1B0) (io), 117 IO, LVDS53p (io), 118 IO, LVDS53n (io), 119 IO, LVDS52p (io), 120 IO, LVDS52n (io)
part E pins: 25 DATA0 (in), 26 nCONFIG (in), 32 nCEO (out), 33 nCE (in), 34 MSEL0 (in), 35 MSEL1 (in), 36 DCLK (io), 145 CONF_DONE (io), 146 nSTATUS (io), 147 TCK (in), 148 TMS (in), 149 TDO (out), 155 TDI (in)
part F pins: 9 VCCIO1 (power), 22 VCCIO1 (power), 51 VCCIO1 (power), 70 VCCIO4 (power), 72 VCCINT (power), 90 VCCINT (power), 92 VCCIO4 (power), 110 VCCINT (power), 112 VCCIO4 (power), 130 VCCIO3 (power), 157 VCCIO3 (power), 172 VCCIO3 (power), 189 VCCIO2 (power), 191 VCCINT (power), 209 VCCIO2 (power), 211 VCCINT (power), 229 VCCINT (power), 231 VCCIO2 (power)
part G pins: 10 GND (power), 40 GND (power), 52 GND (power), 69 GND (power), 71 GND (power), 89 GND (power), 91 GND (power), 109 GND (power), 111 GND (power), 129 GND (power), 142 GND (power), 171 GND (power), 190 GND (power), 192 GND (power), 210 GND (power), 212 GND (power), 230 GND (power), 232 GND (power)
part H pins: 27 VCCA_PLL1 (power), 30 GNDA_PLL1 (power), 31 GNDG_PLL1 (power), 150 GNDG_PLL2 (power), 151 GNDA_PLL2 (power), 154 VCCA_PLL2 (power)
part I pins: 28 CLK0, LVDSCLK1p (in), 29 CLK1, LVDSCLK1n (in), 152 CLK3, LVDSCLK2n (in), 153 CLK2, LVDSCLK2p (in)
part A text: BANK 1
part B text: BANK 2
part C text: BANK 3
part D text: BANK 4

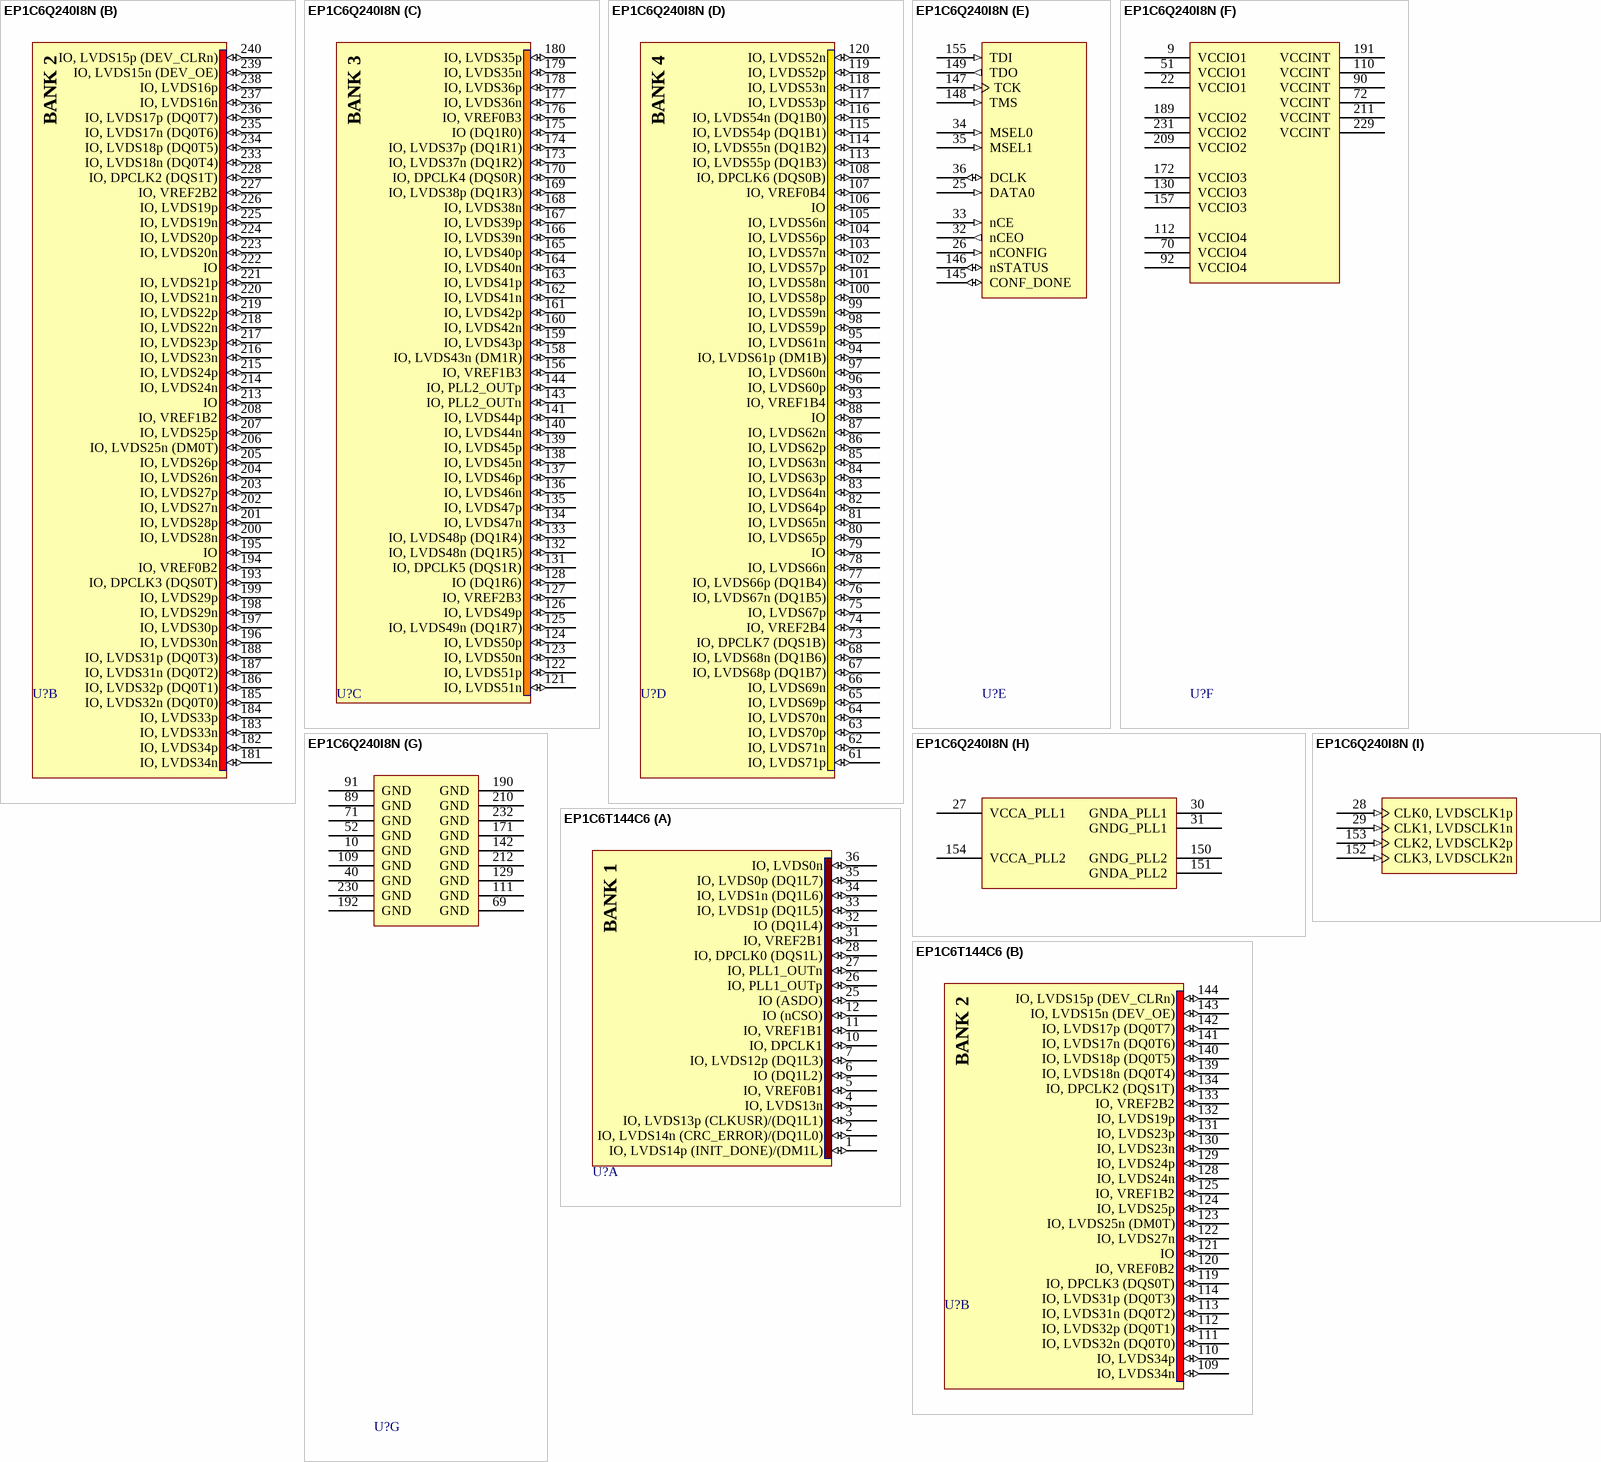
[diagram p71: symbols EP1C6Q240I8N to EP1C6T144C6]

## EP1C6Q240I8N
designator U?
Cyclone Family, 1.5V FPGA, 185 I/O Pins, 2 x PLLs, Industrial Grade, Speed Grade 8, Pb-Free; Published: 18-Aug-2005; LatestRevisionDate: 13-Apr-2006; LatestRevisionNote: Pin 2 name fix, IPC-7351 Footprint Added.; DatasheetVersion: May-2008; PackageVersion: ver15.1, May-2008; PackageReference: PQFP240; Publisher: Altium Limited; PackageDescription: 240-Pin Plastic Quad Flat Pack (PQFP240) - Wire Bond; Code_JEDEC: MS-029-GA; ComponentLink1Description: Manufacturer Link; ComponentLink1URL: http://www.altera.com/products/devices/cyclone/cyc-index.jsp; ComponentLink2Description: Handbook; ComponentLink2URL: http://www.altera.com/literature/hb/cyc/cyc_c5v1.pdf; ComponentLink3Description: Packaging Specification; ComponentLink3URL: http://www.altera.com/literature/ds/dspkg.pdf
footprint PQFP240_N (Shrink QFP, 240-Leads, Body 32x32mm, Pitch 0.5mm, IPC Medium Density)
footprint PQFP240_L (Shrink QFP, 240-Leads, Body 32x32mm, Pitch 0.5mm, IPC High Density)
footprint PQFP240_M (Shrink QFP, 240-Leads, Body 32x32mm, Pitch 0.5mm, IPC Low Density)
3D model EP1C6-PQFP240 (240-Pin Plastic Quad Flat Pack (PQFP240) - Wire Bond)
signal-integrity model 1c (Cyclone)
part A pins: 1 IO, LVDS14p (INIT_DONE) (io), 2 IO, LVDS14n (CRC_ERROR) (io), 3 IO, LVDS13p (CLKUSR) (io), 4 IO, LVDS13n (io), 5 IO, VREF0B1 (io), 6 IO (io), 7 IO, LVDS12p (DQ0L0) (io), 8 IO, LVDS12n (DQ0L1) (io), 11 IO, DPCLK1 (DQS0L) (io), 12 IO, LVDS11p (DQ0L2) (io), 13 IO, LVDS11n (DQ0L3) (io), 14 IO, LVDS10p (io), 15 IO, LVDS10n (io), 16 IO, LVDS9p (io), 17 IO, LVDS9n (io), 18 IO, LVDS8p (io), 19 IO, LVDS8n (io), 20 IO, LVDS7p (io), 21 IO, LVDS7n (DM0L) (io), 23 IO, VREF1B1 (io), 24 IO (nCSO) (io), 37 IO (ASDO) (io), 38 IO, PLL1_OUTp (io), 39 IO, PLL1_OUTn (io), 41 IO (io), 42 IO, LVDS6p (io), 43 IO, LVDS6n (io), 44 IO, LVDS5p (io), 45 IO, LVDS5n (io), 46 IO, LVDS4p (io), 47 IO, LVDS4n (io), 48 IO, LVDS3p (DQ0L4) (io), 49 IO, LVDS3n (DQ0L5) (io), 50 IO, DPCLK0 (DQS1L) (io), 53 IO, LVDS2p (DQ0L6) (io), 54 IO, LVDS2n (DQ0L7) (io), 55 IO, VREF2B1 (io), 56 IO (io), 57 IO, LVDS1p (io), 58 IO, LVDS1n (io), 59 IO, LVDS0p (io), 60 IO, LVDS0n (io)
part B pins: 181 IO, LVDS34n (io), 182 IO, LVDS34p (io), 183 IO, LVDS33n (io), 184 IO, LVDS33p (io), 185 IO, LVDS32n (DQ0T0) (io), 186 IO, LVDS32p (DQ0T1) (io), 187 IO, LVDS31n (DQ0T2) (io), 188 IO, LVDS31p (DQ0T3) (io), 193 IO, DPCLK3 (DQS0T) (io), 194 IO, VREF0B2 (io), 195 IO (io), 196 IO, LVDS30n (io), 197 IO, LVDS30p (io), 198 IO, LVDS29n (io), 199 IO, LVDS29p (io), 200 IO, LVDS28n (io), 201 IO, LVDS28p (io), 202 IO, LVDS27n (io), 203 IO, LVDS27p (io), 204 IO, LVDS26n (io), 205 IO, LVDS26p (io), 206 IO, LVDS25n (DM0T) (io), 207 IO, LVDS25p (io), 208 IO, VREF1B2 (io), 213 IO (io), 214 IO, LVDS24n (io), 215 IO, LVDS24p (io), 216 IO, LVDS23n (io), 217 IO, LVDS23p (io), 218 IO, LVDS22n (io), 219 IO, LVDS22p (io), 220 IO, LVDS21n (io), 221 IO, LVDS21p (io), 222 IO (io), 223 IO, LVDS20n (io), 224 IO, LVDS20p (io), 225 IO, LVDS19n (io), 226 IO, LVDS19p (io), 227 IO, VREF2B2 (io), 228 IO, DPCLK2 (DQS1T) (io), 233 IO, LVDS18n (DQ0T4) (io), 234 IO, LVDS18p (DQ0T5) (io), 235 IO, LVDS17n (DQ0T6) (io), 236 IO, LVDS17p (DQ0T7) (io), 237 IO, LVDS16n (io), 238 IO, LVDS16p (io), 239 IO, LVDS15n (DEV_OE) (io), 240 IO, LVDS15p (DEV_CLRn) (io)
part C pins: 121 IO, LVDS51n (io), 122 IO, LVDS51p (io), 123 IO, LVDS50n (io), 124 IO, LVDS50p (io), 125 IO, LVDS49n (DQ1R7) (io), 126 IO, LVDS49p (io), 127 IO, VREF2B3 (io), 128 IO (DQ1R6) (io), 131 IO, DPCLK5 (DQS1R) (io), 132 IO, LVDS48n (DQ1R5) (io), 133 IO, LVDS48p (DQ1R4) (io), 134 IO, LVDS47n (io), 135 IO, LVDS47p (io), 136 IO, LVDS46n (io), 137 IO, LVDS46p (io), 138 IO, LVDS45n (io), 139 IO, LVDS45p (io), 140 IO, LVDS44n (io), 141 IO, LVDS44p (io), 143 IO, PLL2_OUTn (io), 144 IO, PLL2_OUTp (io), 156 IO, VREF1B3 (io), 158 IO, LVDS43n (DM1R) (io), 159 IO, LVDS43p (io), 160 IO, LVDS42n (io), 161 IO, LVDS42p (io), 162 IO, LVDS41n (io), 163 IO, LVDS41p (io), 164 IO, LVDS40n (io), 165 IO, LVDS40p (io), 166 IO, LVDS39n (io), 167 IO, LVDS39p (io), 168 IO, LVDS38n (io), 169 IO, LVDS38p (DQ1R3) (io), 170 IO, DPCLK4 (DQS0R) (io), 173 IO, LVDS37n (DQ1R2) (io), 174 IO, LVDS37p (DQ1R1) (io), 175 IO (DQ1R0) (io), 176 IO, VREF0B3 (io), 177 IO, LVDS36n (io), 178 IO, LVDS36p (io), 179 IO, LVDS35n (io), 180 IO, LVDS35p (io)
part D pins: 61 IO, LVDS71p (io), 62 IO, LVDS71n (io), 63 IO, LVDS70p (io), 64 IO, LVDS70n (io), 65 IO, LVDS69p (io), 66 IO, LVDS69n (io), 67 IO, LVDS68p (DQ1B7) (io), 68 IO, LVDS68n (DQ1B6) (io), 73 IO, DPCLK7 (DQS1B) (io), 74 IO, VREF2B4 (io), 75 IO, LVDS67p (io), 76 IO, LVDS67n (DQ1B5) (io), 77 IO, LVDS66p (DQ1B4) (io), 78 IO, LVDS66n (io), 79 IO (io), 80 IO, LVDS65p (io), 81 IO, LVDS65n (io), 82 IO, LVDS64p (io), 83 IO, LVDS64n (io), 84 IO, LVDS63p (io), 85 IO, LVDS63n (io), 86 IO, LVDS62p (io), 87 IO, LVDS62n (io), 88 IO (io), 93 IO, VREF1B4 (io), 94 IO, LVDS61p (DM1B) (io), 95 IO, LVDS61n (io), 96 IO, LVDS60p (io), 97 IO, LVDS60n (io), 98 IO, LVDS59p (io), 99 IO, LVDS59n (io), 100 IO, LVDS58p (io), 101 IO, LVDS58n (io), 102 IO, LVDS57p (io), 103 IO, LVDS57n (io), 104 IO, LVDS56p (io), 105 IO, LVDS56n (io), 106 IO (io), 107 IO, VREF0B4 (io), 108 IO, DPCLK6 (DQS0B) (io), 113 IO, LVDS55p (DQ1B3) (io), 114 IO, LVDS55n (DQ1B2) (io), 115 IO, LVDS54p (DQ1B1) (io), 116 IO, LVDS54n (DQ1B0) (io), 117 IO, LVDS53p (io), 118 IO, LVDS53n (io), 119 IO, LVDS52p (io), 120 IO, LVDS52n (io)
part E pins: 25 DATA0 (in), 26 nCONFIG (in), 32 nCEO (out), 33 nCE (in), 34 MSEL0 (in), 35 MSEL1 (in), 36 DCLK (io), 145 CONF_DONE (io), 146 nSTATUS (io), 147 TCK (in), 148 TMS (in), 149 TDO (out), 155 TDI (in)
part F pins: 9 VCCIO1 (power), 22 VCCIO1 (power), 51 VCCIO1 (power), 70 VCCIO4 (power), 72 VCCINT (power), 90 VCCINT (power), 92 VCCIO4 (power), 110 VCCINT (power), 112 VCCIO4 (power), 130 VCCIO3 (power), 157 VCCIO3 (power), 172 VCCIO3 (power), 189 VCCIO2 (power), 191 VCCINT (power), 209 VCCIO2 (power), 211 VCCINT (power), 229 VCCINT (power), 231 VCCIO2 (power)
part G pins: 10 GND (power), 40 GND (power), 52 GND (power), 69 GND (power), 71 GND (power), 89 GND (power), 91 GND (power), 109 GND (power), 111 GND (power), 129 GND (power), 142 GND (power), 171 GND (power), 190 GND (power), 192 GND (power), 210 GND (power), 212 GND (power), 230 GND (power), 232 GND (power)
part H pins: 27 VCCA_PLL1 (power), 30 GNDA_PLL1 (power), 31 GNDG_PLL1 (power), 150 GNDG_PLL2 (power), 151 GNDA_PLL2 (power), 154 VCCA_PLL2 (power)
part I pins: 28 CLK0, LVDSCLK1p (in), 29 CLK1, LVDSCLK1n (in), 152 CLK3, LVDSCLK2n (in), 153 CLK2, LVDSCLK2p (in)
part A text: BANK 1
part B text: BANK 2
part C text: BANK 3
part D text: BANK 4

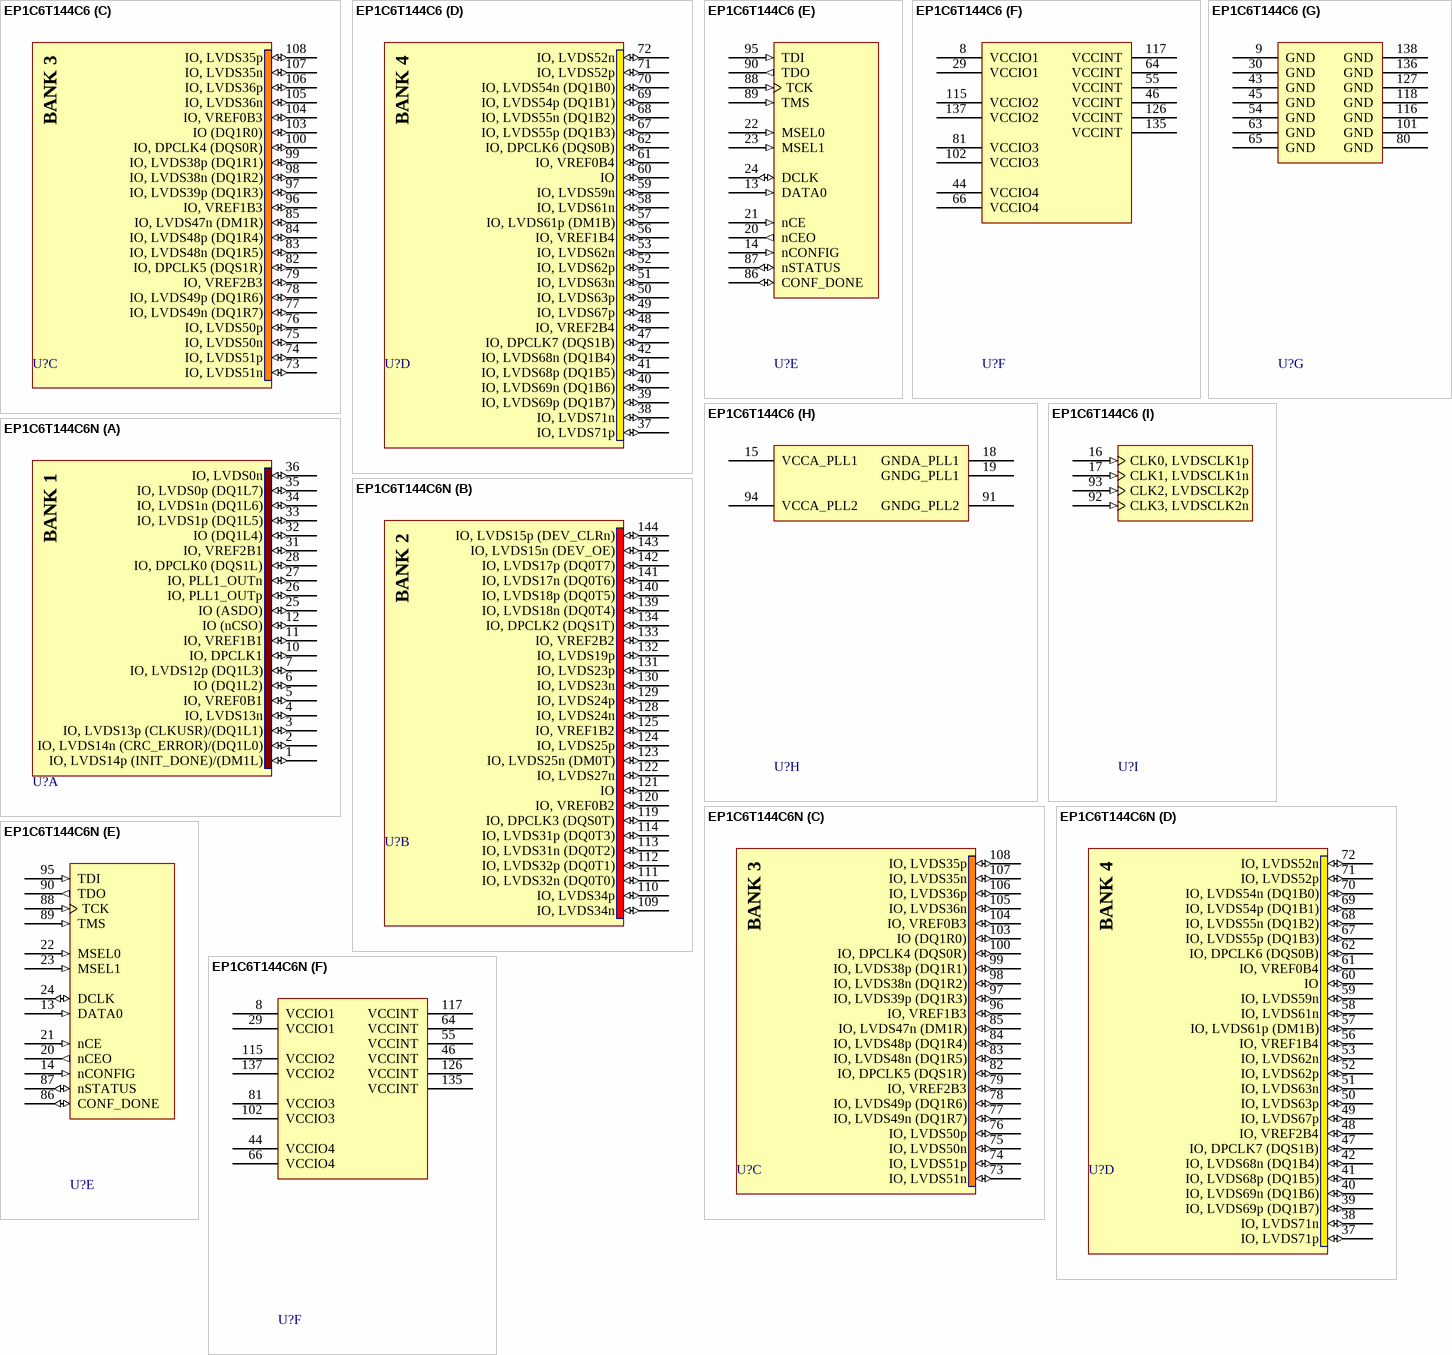
[diagram p72: symbols EP1C6T144C6 to EP1C6T144C6N]

## EP1C6T144C6
designator U?
Cyclone Family, 1.5V FPGA, 98 I/O Pins, 2 x PLLs, Commercial Grade, Speed Grade 6; Published: 17-Sep-2003; LatestRevisionDate: 13-Apr-2006; LatestRevisionNote: Pin 2 name fix, IPC-7351 Footprint Added.; DatasheetVersion: May-2008; PackageVersion: ver15.1, May-2008; PackageReference: TQFP144; Publisher: Altium Limited; PackageDescription: 144-Pin Plastic Thin Quad Flat Pack (TQFP144) - Wire Bond; Code_JEDEC: MS-026-BFB; ComponentLink1Description: Manufacturer Link; ComponentLink1URL: http://www.altera.com/products/devices/cyclone/cyc-index.jsp; ComponentLink2Description: Handbook; ComponentLink2URL: http://www.altera.com/literature/hb/cyc/cyc_c5v1.pdf; ComponentLink3Description: Packaging Specification; ComponentLink3URL: http://www.altera.com/literature/ds/dspkg.pdf
footprint TQFP144_N (Thin QFP, 144-Leads, Body 20x20mm, Pitch 0.5mm, IPC Medium Density)
footprint TQFP144_L (Thin QFP, 144-Leads, Body 20x20mm, Pitch 0.5mm, IPC High Density)
footprint TQFP144_M (Thin QFP, 144-Leads, Body 20x20mm, Pitch 0.5mm, IPC Low Density)
3D model EP1C6-TQFP144 (144-Pin Plastic Thin Quad Flat Pack (TQFP144) - Wire Bond)
signal-integrity model 1c (Cyclone)
part A pins: 1 IO, LVDS14p (INIT_DONE)/(DM1L) (io), 2 IO, LVDS14n (CRC_ERROR)/(DQ1L0) (io), 3 IO, LVDS13p (CLKUSR)/(DQ1L1) (io), 4 IO, LVDS13n (io), 5 IO, VREF0B1 (io), 6 IO (DQ1L2) (io), 7 IO, LVDS12p (DQ1L3) (io), 10 IO, DPCLK1 (io), 11 IO, VREF1B1 (io), 12 IO (nCSO) (io), 25 IO (ASDO) (io), 26 IO, PLL1_OUTp (io), 27 IO, PLL1_OUTn (io), 28 IO, DPCLK0 (DQS1L) (io), 31 IO, VREF2B1 (io), 32 IO (DQ1L4) (io), 33 IO, LVDS1p (DQ1L5) (io), 34 IO, LVDS1n (DQ1L6) (io), 35 IO, LVDS0p (DQ1L7) (io), 36 IO, LVDS0n (io)
part B pins: 109 IO, LVDS34n (io), 110 IO, LVDS34p (io), 111 IO, LVDS32n (DQ0T0) (io), 112 IO, LVDS32p (DQ0T1) (io), 113 IO, LVDS31n (DQ0T2) (io), 114 IO, LVDS31p (DQ0T3) (io), 119 IO, DPCLK3 (DQS0T) (io), 120 IO, VREF0B2 (io), 121 IO (io), 122 IO, LVDS27n (io), 123 IO, LVDS25n (DM0T) (io), 124 IO, LVDS25p (io), 125 IO, VREF1B2 (io), 128 IO, LVDS24n (io), 129 IO, LVDS24p (io), 130 IO, LVDS23n (io), 131 IO, LVDS23p (io), 132 IO, LVDS19p (io), 133 IO, VREF2B2 (io), 134 IO, DPCLK2 (DQS1T) (io), 139 IO, LVDS18n (DQ0T4) (io), 140 IO, LVDS18p (DQ0T5) (io), 141 IO, LVDS17n (DQ0T6) (io), 142 IO, LVDS17p (DQ0T7) (io), 143 IO, LVDS15n (DEV_OE) (io), 144 IO, LVDS15p (DEV_CLRn) (io)
part C pins: 73 IO, LVDS51n (io), 74 IO, LVDS51p (io), 75 IO, LVDS50n (io), 76 IO, LVDS50p (io), 77 IO, LVDS49n (DQ1R7) (io), 78 IO, LVDS49p (DQ1R6) (io), 79 IO, VREF2B3 (io), 82 IO, DPCLK5 (DQS1R) (io), 83 IO, LVDS48n (DQ1R5) (io), 84 IO, LVDS48p (DQ1R4) (io), 85 IO, LVDS47n (DM1R) (io), 96 IO, VREF1B3 (io), 97 IO, LVDS39p (DQ1R3) (io), 98 IO, LVDS38n (DQ1R2) (io), 99 IO, LVDS38p (DQ1R1) (io), 100 IO, DPCLK4 (DQS0R) (io), 103 IO (DQ1R0) (io), 104 IO, VREF0B3 (io), 105 IO, LVDS36n (io), 106 IO, LVDS36p (io), 107 IO, LVDS35n (io), 108 IO, LVDS35p (io)
part D pins: 37 IO, LVDS71p (io), 38 IO, LVDS71n (io), 39 IO, LVDS69p (DQ1B7) (io), 40 IO, LVDS69n (DQ1B6) (io), 41 IO, LVDS68p (DQ1B5) (io), 42 IO, LVDS68n (DQ1B4) (io), 47 IO, DPCLK7 (DQS1B) (io), 48 IO, VREF2B4 (io), 49 IO, LVDS67p (io), 50 IO, LVDS63p (io), 51 IO, LVDS63n (io), 52 IO, LVDS62p (io), 53 IO, LVDS62n (io), 56 IO, VREF1B4 (io), 57 IO, LVDS61p (DM1B) (io), 58 IO, LVDS61n (io), 59 IO, LVDS59n (io), 60 IO (io), 61 IO, VREF0B4 (io), 62 IO, DPCLK6 (DQS0B) (io), 67 IO, LVDS55p (DQ1B3) (io), 68 IO, LVDS55n (DQ1B2) (io), 69 IO, LVDS54p (DQ1B1) (io), 70 IO, LVDS54n (DQ1B0) (io), 71 IO, LVDS52p (io), 72 IO, LVDS52n (io)
part E pins: 13 DATA0 (in), 14 nCONFIG (in), 20 nCEO (out), 21 nCE (in), 22 MSEL0 (in), 23 MSEL1 (in), 24 DCLK (io), 86 CONF_DONE (io), 87 nSTATUS (io), 88 TCK (in), 89 TMS (in), 90 TDO (out), 95 TDI (in)
part F pins: 8 VCCIO1 (power), 29 VCCIO1 (power), 44 VCCIO4 (power), 46 VCCINT (power), 55 VCCINT (power), 64 VCCINT (power), 66 VCCIO4 (power), 81 VCCIO3 (power), 102 VCCIO3 (power), 115 VCCIO2 (power), 117 VCCINT (power), 126 VCCINT (power), 135 VCCINT (power), 137 VCCIO2 (power)
part G pins: 9 GND (power), 30 GND (power), 43 GND (power), 45 GND (power), 54 GND (power), 63 GND (power), 65 GND (power), 80 GND (power), 101 GND (power), 116 GND (power), 118 GND (power), 127 GND (power), 136 GND (power), 138 GND (power)
part H pins: 15 VCCA_PLL1 (power), 18 GNDA_PLL1 (power), 19 GNDG_PLL1 (power), 91 GNDG_PLL2 (power), 94 VCCA_PLL2 (power)
part I pins: 16 CLK0, LVDSCLK1p (in), 17 CLK1, LVDSCLK1n (in), 92 CLK3, LVDSCLK2n (in), 93 CLK2, LVDSCLK2p (in)
part A text: BANK 1
part B text: BANK 2
part C text: BANK 3
part D text: BANK 4

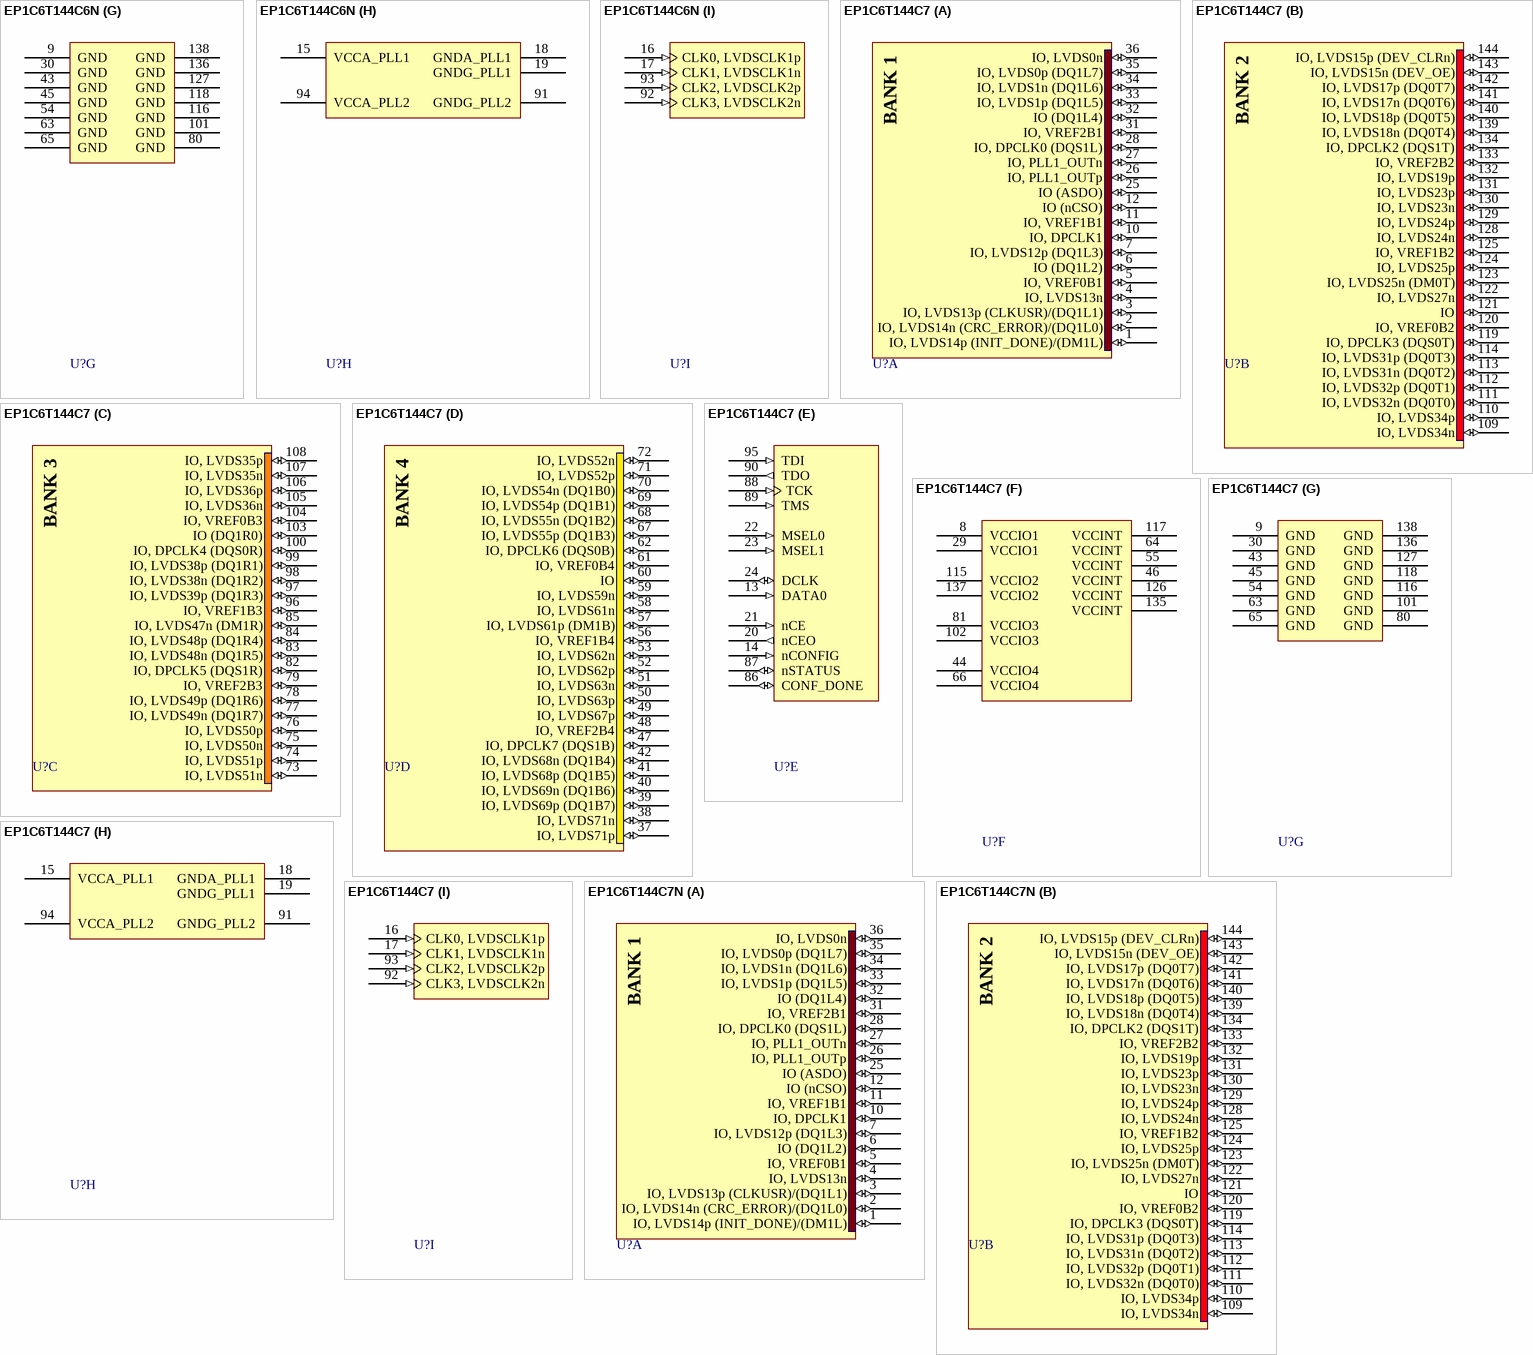
[diagram p73: symbols EP1C6T144C6N to EP1C6T144C7N]

## EP1C6T144C6N
designator U?
Cyclone Family, 1.5V FPGA, 98 I/O Pins, 2 x PLLs, Commercial Grade, Speed Grade 6, Pb-Free; Published: 4-Mar-2005; LatestRevisionDate: 13-Apr-2006; LatestRevisionNote: Pin 2 name fix, IPC-7351 Footprint Added.; DatasheetVersion: May-2008; PackageVersion: ver15.1, May-2008; PackageReference: TQFP144; Publisher: Altium Limited; PackageDescription: 144-Pin Plastic Thin Quad Flat Pack (TQFP144) - Wire Bond; Code_JEDEC: MS-026-BFB; ComponentLink1Description: Manufacturer Link; ComponentLink1URL: http://www.altera.com/products/devices/cyclone/cyc-index.jsp; ComponentLink2Description: Handbook; ComponentLink2URL: http://www.altera.com/literature/hb/cyc/cyc_c5v1.pdf; ComponentLink3Description: Packaging Specification; ComponentLink3URL: http://www.altera.com/literature/ds/dspkg.pdf
footprint TQFP144_N (Thin QFP, 144-Leads, Body 20x20mm, Pitch 0.5mm, IPC Medium Density)
footprint TQFP144_L (Thin QFP, 144-Leads, Body 20x20mm, Pitch 0.5mm, IPC High Density)
footprint TQFP144_M (Thin QFP, 144-Leads, Body 20x20mm, Pitch 0.5mm, IPC Low Density)
3D model EP1C6-TQFP144 (144-Pin Plastic Thin Quad Flat Pack (TQFP144) - Wire Bond)
signal-integrity model 1c (Cyclone)
part A pins: 1 IO, LVDS14p (INIT_DONE)/(DM1L) (io), 2 IO, LVDS14n (CRC_ERROR)/(DQ1L0) (io), 3 IO, LVDS13p (CLKUSR)/(DQ1L1) (io), 4 IO, LVDS13n (io), 5 IO, VREF0B1 (io), 6 IO (DQ1L2) (io), 7 IO, LVDS12p (DQ1L3) (io), 10 IO, DPCLK1 (io), 11 IO, VREF1B1 (io), 12 IO (nCSO) (io), 25 IO (ASDO) (io), 26 IO, PLL1_OUTp (io), 27 IO, PLL1_OUTn (io), 28 IO, DPCLK0 (DQS1L) (io), 31 IO, VREF2B1 (io), 32 IO (DQ1L4) (io), 33 IO, LVDS1p (DQ1L5) (io), 34 IO, LVDS1n (DQ1L6) (io), 35 IO, LVDS0p (DQ1L7) (io), 36 IO, LVDS0n (io)
part B pins: 109 IO, LVDS34n (io), 110 IO, LVDS34p (io), 111 IO, LVDS32n (DQ0T0) (io), 112 IO, LVDS32p (DQ0T1) (io), 113 IO, LVDS31n (DQ0T2) (io), 114 IO, LVDS31p (DQ0T3) (io), 119 IO, DPCLK3 (DQS0T) (io), 120 IO, VREF0B2 (io), 121 IO (io), 122 IO, LVDS27n (io), 123 IO, LVDS25n (DM0T) (io), 124 IO, LVDS25p (io), 125 IO, VREF1B2 (io), 128 IO, LVDS24n (io), 129 IO, LVDS24p (io), 130 IO, LVDS23n (io), 131 IO, LVDS23p (io), 132 IO, LVDS19p (io), 133 IO, VREF2B2 (io), 134 IO, DPCLK2 (DQS1T) (io), 139 IO, LVDS18n (DQ0T4) (io), 140 IO, LVDS18p (DQ0T5) (io), 141 IO, LVDS17n (DQ0T6) (io), 142 IO, LVDS17p (DQ0T7) (io), 143 IO, LVDS15n (DEV_OE) (io), 144 IO, LVDS15p (DEV_CLRn) (io)
part C pins: 73 IO, LVDS51n (io), 74 IO, LVDS51p (io), 75 IO, LVDS50n (io), 76 IO, LVDS50p (io), 77 IO, LVDS49n (DQ1R7) (io), 78 IO, LVDS49p (DQ1R6) (io), 79 IO, VREF2B3 (io), 82 IO, DPCLK5 (DQS1R) (io), 83 IO, LVDS48n (DQ1R5) (io), 84 IO, LVDS48p (DQ1R4) (io), 85 IO, LVDS47n (DM1R) (io), 96 IO, VREF1B3 (io), 97 IO, LVDS39p (DQ1R3) (io), 98 IO, LVDS38n (DQ1R2) (io), 99 IO, LVDS38p (DQ1R1) (io), 100 IO, DPCLK4 (DQS0R) (io), 103 IO (DQ1R0) (io), 104 IO, VREF0B3 (io), 105 IO, LVDS36n (io), 106 IO, LVDS36p (io), 107 IO, LVDS35n (io), 108 IO, LVDS35p (io)
part D pins: 37 IO, LVDS71p (io), 38 IO, LVDS71n (io), 39 IO, LVDS69p (DQ1B7) (io), 40 IO, LVDS69n (DQ1B6) (io), 41 IO, LVDS68p (DQ1B5) (io), 42 IO, LVDS68n (DQ1B4) (io), 47 IO, DPCLK7 (DQS1B) (io), 48 IO, VREF2B4 (io), 49 IO, LVDS67p (io), 50 IO, LVDS63p (io), 51 IO, LVDS63n (io), 52 IO, LVDS62p (io), 53 IO, LVDS62n (io), 56 IO, VREF1B4 (io), 57 IO, LVDS61p (DM1B) (io), 58 IO, LVDS61n (io), 59 IO, LVDS59n (io), 60 IO (io), 61 IO, VREF0B4 (io), 62 IO, DPCLK6 (DQS0B) (io), 67 IO, LVDS55p (DQ1B3) (io), 68 IO, LVDS55n (DQ1B2) (io), 69 IO, LVDS54p (DQ1B1) (io), 70 IO, LVDS54n (DQ1B0) (io), 71 IO, LVDS52p (io), 72 IO, LVDS52n (io)
part E pins: 13 DATA0 (in), 14 nCONFIG (in), 20 nCEO (out), 21 nCE (in), 22 MSEL0 (in), 23 MSEL1 (in), 24 DCLK (io), 86 CONF_DONE (io), 87 nSTATUS (io), 88 TCK (in), 89 TMS (in), 90 TDO (out), 95 TDI (in)
part F pins: 8 VCCIO1 (power), 29 VCCIO1 (power), 44 VCCIO4 (power), 46 VCCINT (power), 55 VCCINT (power), 64 VCCINT (power), 66 VCCIO4 (power), 81 VCCIO3 (power), 102 VCCIO3 (power), 115 VCCIO2 (power), 117 VCCINT (power), 126 VCCINT (power), 135 VCCINT (power), 137 VCCIO2 (power)
part G pins: 9 GND (power), 30 GND (power), 43 GND (power), 45 GND (power), 54 GND (power), 63 GND (power), 65 GND (power), 80 GND (power), 101 GND (power), 116 GND (power), 118 GND (power), 127 GND (power), 136 GND (power), 138 GND (power)
part H pins: 15 VCCA_PLL1 (power), 18 GNDA_PLL1 (power), 19 GNDG_PLL1 (power), 91 GNDG_PLL2 (power), 94 VCCA_PLL2 (power)
part I pins: 16 CLK0, LVDSCLK1p (in), 17 CLK1, LVDSCLK1n (in), 92 CLK3, LVDSCLK2n (in), 93 CLK2, LVDSCLK2p (in)
part A text: BANK 1
part B text: BANK 2
part C text: BANK 3
part D text: BANK 4

## EP1C6T144C7
designator U?
Cyclone Family, 1.5V FPGA, 98 I/O Pins, 2 x PLLs, Commercial Grade, Speed Grade 7; Published: 17-Sep-2003; LatestRevisionDate: 13-Apr-2006; LatestRevisionNote: Pin 2 name fix, IPC-7351 Footprint Added.; DatasheetVersion: May-2008; PackageVersion: ver15.1, May-2008; PackageReference: TQFP144; Publisher: Altium Limited; PackageDescription: 144-Pin Plastic Thin Quad Flat Pack (TQFP144) - Wire Bond; Code_JEDEC: MS-026-BFB; ComponentLink1Description: Manufacturer Link; ComponentLink1URL: http://www.altera.com/products/devices/cyclone/cyc-index.jsp; ComponentLink2Description: Handbook; ComponentLink2URL: http://www.altera.com/literature/hb/cyc/cyc_c5v1.pdf; ComponentLink3Description: Packaging Specification; ComponentLink3URL: http://www.altera.com/literature/ds/dspkg.pdf
footprint TQFP144_N (Thin QFP, 144-Leads, Body 20x20mm, Pitch 0.5mm, IPC Medium Density)
footprint TQFP144_L (Thin QFP, 144-Leads, Body 20x20mm, Pitch 0.5mm, IPC High Density)
footprint TQFP144_M (Thin QFP, 144-Leads, Body 20x20mm, Pitch 0.5mm, IPC Low Density)
3D model EP1C6-TQFP144 (144-Pin Plastic Thin Quad Flat Pack (TQFP144) - Wire Bond)
signal-integrity model 1c (Cyclone)
part A pins: 1 IO, LVDS14p (INIT_DONE)/(DM1L) (io), 2 IO, LVDS14n (CRC_ERROR)/(DQ1L0) (io), 3 IO, LVDS13p (CLKUSR)/(DQ1L1) (io), 4 IO, LVDS13n (io), 5 IO, VREF0B1 (io), 6 IO (DQ1L2) (io), 7 IO, LVDS12p (DQ1L3) (io), 10 IO, DPCLK1 (io), 11 IO, VREF1B1 (io), 12 IO (nCSO) (io), 25 IO (ASDO) (io), 26 IO, PLL1_OUTp (io), 27 IO, PLL1_OUTn (io), 28 IO, DPCLK0 (DQS1L) (io), 31 IO, VREF2B1 (io), 32 IO (DQ1L4) (io), 33 IO, LVDS1p (DQ1L5) (io), 34 IO, LVDS1n (DQ1L6) (io), 35 IO, LVDS0p (DQ1L7) (io), 36 IO, LVDS0n (io)
part B pins: 109 IO, LVDS34n (io), 110 IO, LVDS34p (io), 111 IO, LVDS32n (DQ0T0) (io), 112 IO, LVDS32p (DQ0T1) (io), 113 IO, LVDS31n (DQ0T2) (io), 114 IO, LVDS31p (DQ0T3) (io), 119 IO, DPCLK3 (DQS0T) (io), 120 IO, VREF0B2 (io), 121 IO (io), 122 IO, LVDS27n (io), 123 IO, LVDS25n (DM0T) (io), 124 IO, LVDS25p (io), 125 IO, VREF1B2 (io), 128 IO, LVDS24n (io), 129 IO, LVDS24p (io), 130 IO, LVDS23n (io), 131 IO, LVDS23p (io), 132 IO, LVDS19p (io), 133 IO, VREF2B2 (io), 134 IO, DPCLK2 (DQS1T) (io), 139 IO, LVDS18n (DQ0T4) (io), 140 IO, LVDS18p (DQ0T5) (io), 141 IO, LVDS17n (DQ0T6) (io), 142 IO, LVDS17p (DQ0T7) (io), 143 IO, LVDS15n (DEV_OE) (io), 144 IO, LVDS15p (DEV_CLRn) (io)
part C pins: 73 IO, LVDS51n (io), 74 IO, LVDS51p (io), 75 IO, LVDS50n (io), 76 IO, LVDS50p (io), 77 IO, LVDS49n (DQ1R7) (io), 78 IO, LVDS49p (DQ1R6) (io), 79 IO, VREF2B3 (io), 82 IO, DPCLK5 (DQS1R) (io), 83 IO, LVDS48n (DQ1R5) (io), 84 IO, LVDS48p (DQ1R4) (io), 85 IO, LVDS47n (DM1R) (io), 96 IO, VREF1B3 (io), 97 IO, LVDS39p (DQ1R3) (io), 98 IO, LVDS38n (DQ1R2) (io), 99 IO, LVDS38p (DQ1R1) (io), 100 IO, DPCLK4 (DQS0R) (io), 103 IO (DQ1R0) (io), 104 IO, VREF0B3 (io), 105 IO, LVDS36n (io), 106 IO, LVDS36p (io), 107 IO, LVDS35n (io), 108 IO, LVDS35p (io)
part D pins: 37 IO, LVDS71p (io), 38 IO, LVDS71n (io), 39 IO, LVDS69p (DQ1B7) (io), 40 IO, LVDS69n (DQ1B6) (io), 41 IO, LVDS68p (DQ1B5) (io), 42 IO, LVDS68n (DQ1B4) (io), 47 IO, DPCLK7 (DQS1B) (io), 48 IO, VREF2B4 (io), 49 IO, LVDS67p (io), 50 IO, LVDS63p (io), 51 IO, LVDS63n (io), 52 IO, LVDS62p (io), 53 IO, LVDS62n (io), 56 IO, VREF1B4 (io), 57 IO, LVDS61p (DM1B) (io), 58 IO, LVDS61n (io), 59 IO, LVDS59n (io), 60 IO (io), 61 IO, VREF0B4 (io), 62 IO, DPCLK6 (DQS0B) (io), 67 IO, LVDS55p (DQ1B3) (io), 68 IO, LVDS55n (DQ1B2) (io), 69 IO, LVDS54p (DQ1B1) (io), 70 IO, LVDS54n (DQ1B0) (io), 71 IO, LVDS52p (io), 72 IO, LVDS52n (io)
part E pins: 13 DATA0 (in), 14 nCONFIG (in), 20 nCEO (out), 21 nCE (in), 22 MSEL0 (in), 23 MSEL1 (in), 24 DCLK (io), 86 CONF_DONE (io), 87 nSTATUS (io), 88 TCK (in), 89 TMS (in), 90 TDO (out), 95 TDI (in)
part F pins: 8 VCCIO1 (power), 29 VCCIO1 (power), 44 VCCIO4 (power), 46 VCCINT (power), 55 VCCINT (power), 64 VCCINT (power), 66 VCCIO4 (power), 81 VCCIO3 (power), 102 VCCIO3 (power), 115 VCCIO2 (power), 117 VCCINT (power), 126 VCCINT (power), 135 VCCINT (power), 137 VCCIO2 (power)
part G pins: 9 GND (power), 30 GND (power), 43 GND (power), 45 GND (power), 54 GND (power), 63 GND (power), 65 GND (power), 80 GND (power), 101 GND (power), 116 GND (power), 118 GND (power), 127 GND (power), 136 GND (power), 138 GND (power)
part H pins: 15 VCCA_PLL1 (power), 18 GNDA_PLL1 (power), 19 GNDG_PLL1 (power), 91 GNDG_PLL2 (power), 94 VCCA_PLL2 (power)
part I pins: 16 CLK0, LVDSCLK1p (in), 17 CLK1, LVDSCLK1n (in), 92 CLK3, LVDSCLK2n (in), 93 CLK2, LVDSCLK2p (in)
part A text: BANK 1
part B text: BANK 2
part C text: BANK 3
part D text: BANK 4

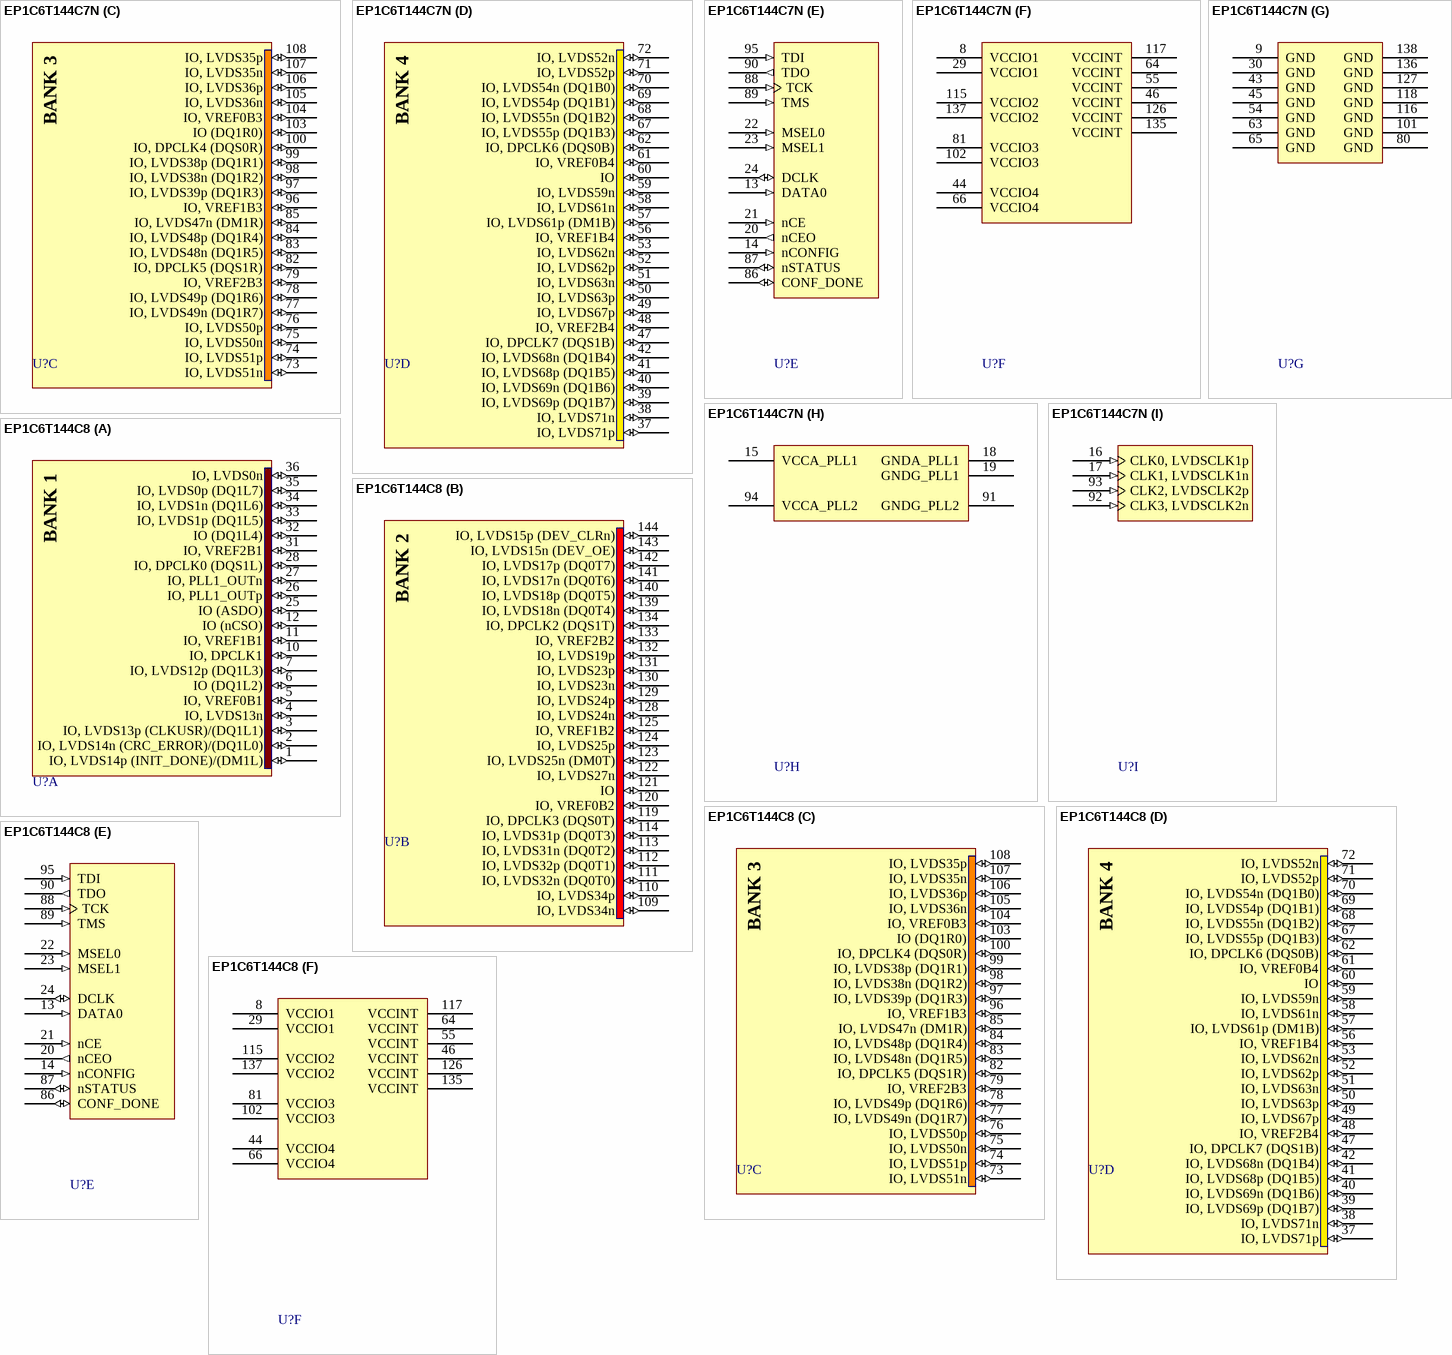
[diagram p74: symbols EP1C6T144C7N to EP1C6T144C8]